# Altium schematic symbol library MCU_NXP_S08.SchLib: 189 symbols (part 2 of 4)
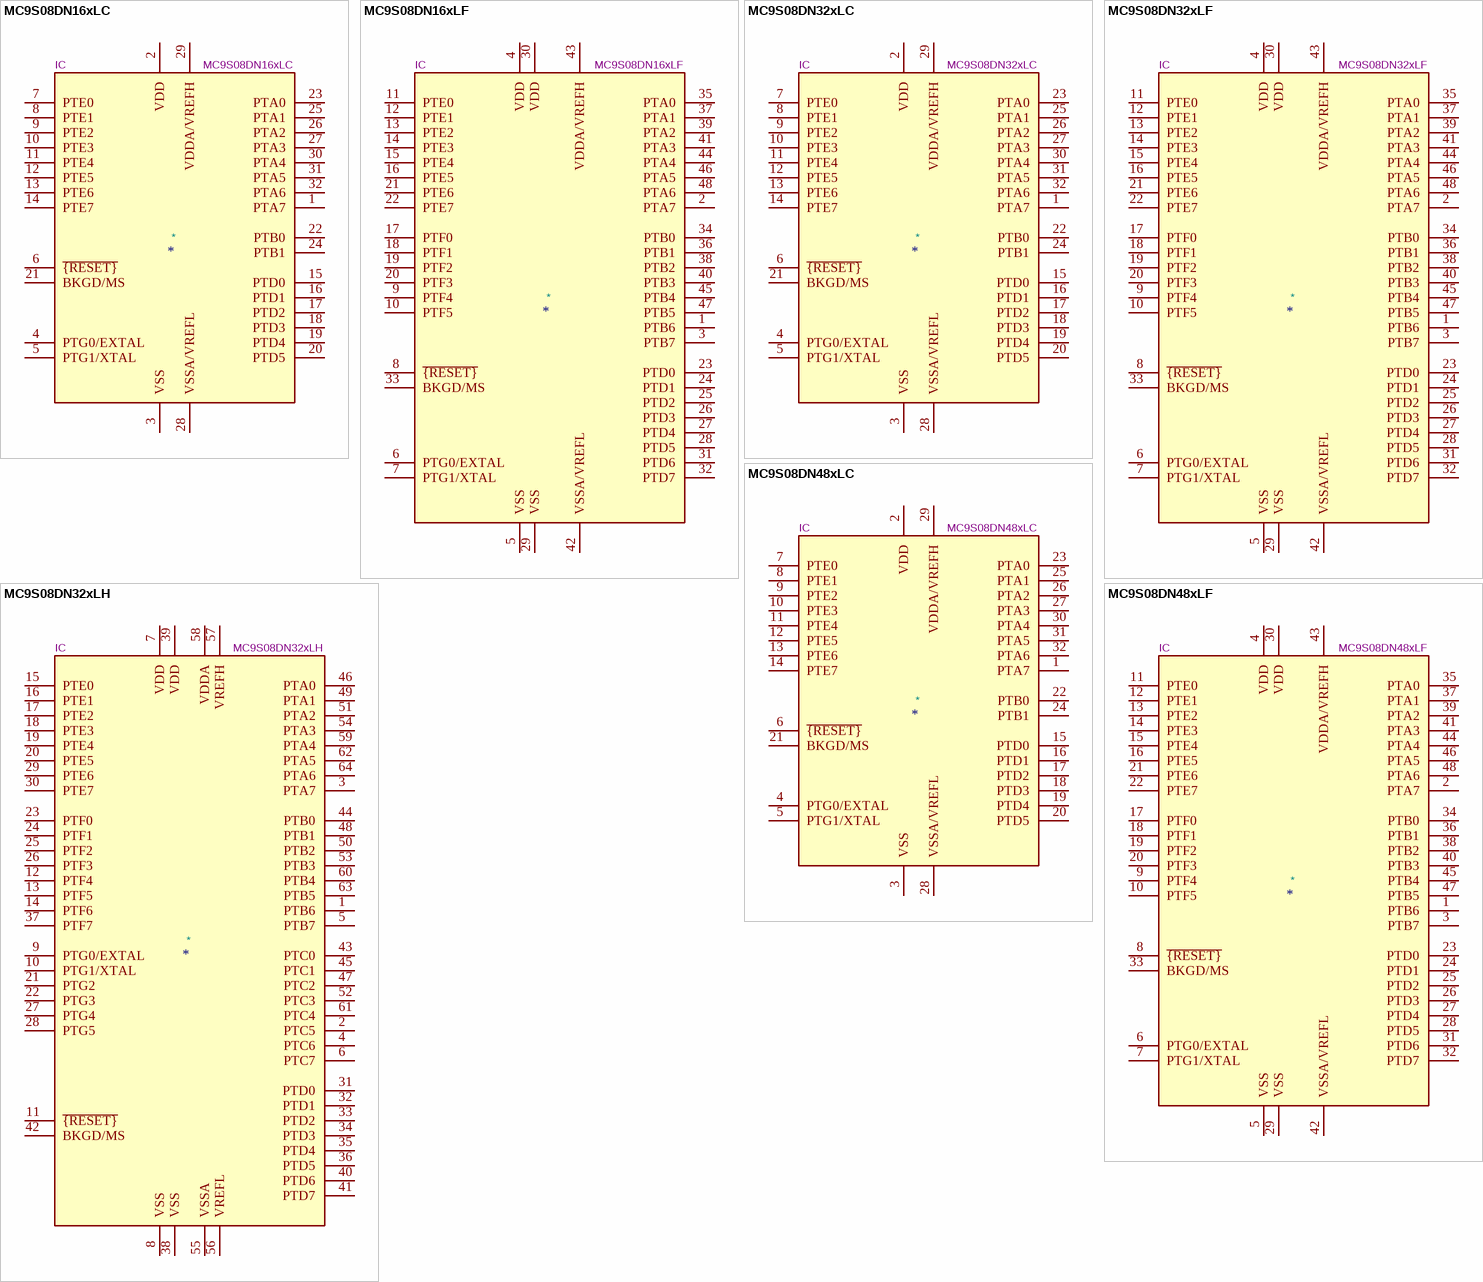
[diagram p20: symbols MC9S08DN16xLC to MC9S08DN48xLF]

## MC9S08DN48xLC
designator *  value MC9S08DN48xLC  Reference: IC
8-bit Cost-Effective Microcontroller, S08 core, 48kB Flash, 2kB RAM, 1.5kB EEPROM, LQFP-32; ki_keywords: NXP S08 Microcontroller; ki_fp_filters: LQFP*7x7mm*P0.8mm*; Footprint: Package_QFP:LQFP-32_7x7mm_P0.8mm; Datasheet: https://www.nxp.com/docs/en/data-sheet/MC9S08DZ60.pdf; Description_: 8-bit Cost-Effective Microcontroller, S08 core, 48kB Flash, 2kB RAM, 1.5kB EEPROM, LQFP-32
pins: 1 PTA7, 2 VDD, 3 VSS, 4 PTG0/EXTAL, 5 PTG1/XTAL, 6 ~{{RESET}}, 7 PTE0, 8 PTE1, 9 PTE2, 10 PTE3, 11 PTE4, 12 PTE5, 13 PTE6, 14 PTE7, 15 PTD0, 16 PTD1, 17 PTD2, 18 PTD3, 19 PTD4, 20 PTD5, 21 BKGD/MS, 22 PTB0, 23 PTA0, 24 PTB1, 25 PTA1, 26 PTA2, 27 PTA3, 28 VSSA/VREFL, 29 VDDA/VREFH, 30 PTA4, 31 PTA5, 32 PTA6

## MC9S08DN48xLF
designator *  value MC9S08DN48xLF  Reference: IC
8-bit Cost-Effective Microcontroller, S08 core, 48kB Flash, 2kB RAM, 1.5kB EEPROM, LQFP-48; ki_keywords: NXP S08 Microcontroller; ki_fp_filters: LQFP*7x7mm*P0.5mm*; Footprint: Package_QFP:LQFP-48_7x7mm_P0.5mm; Datasheet: https://www.nxp.com/docs/en/data-sheet/MC9S08DZ60.pdf; Description_: 8-bit Cost-Effective Microcontroller, S08 core, 48kB Flash, 2kB RAM, 1.5kB EEPROM, LQFP-48
pins: 1 PTB6, 2 PTA7, 3 PTB7, 4 VDD, 5 VSS, 6 PTG0/EXTAL, 7 PTG1/XTAL, 8 ~{{RESET}}, 9 PTF4, 10 PTF5, 11 PTE0, 12 PTE1, 13 PTE2, 14 PTE3, 15 PTE4, 16 PTE5, 17 PTF0, 18 PTF1, 19 PTF2, 20 PTF3, 21 PTE6, 22 PTE7, 23 PTD0, 24 PTD1, 25 PTD2, 26 PTD3, 27 PTD4, 28 PTD5, 29 VSS, 30 VDD, 31 PTD6, 32 PTD7, 33 BKGD/MS, 34 PTB0, 35 PTA0, 36 PTB1, 37 PTA1, 38 PTB2, 39 PTA2, 40 PTB3, 41 PTA3, 42 VSSA/VREFL, 43 VDDA/VREFH, 44 PTA4, 45 PTB4, 46 PTA5, 47 PTB5, 48 PTA6

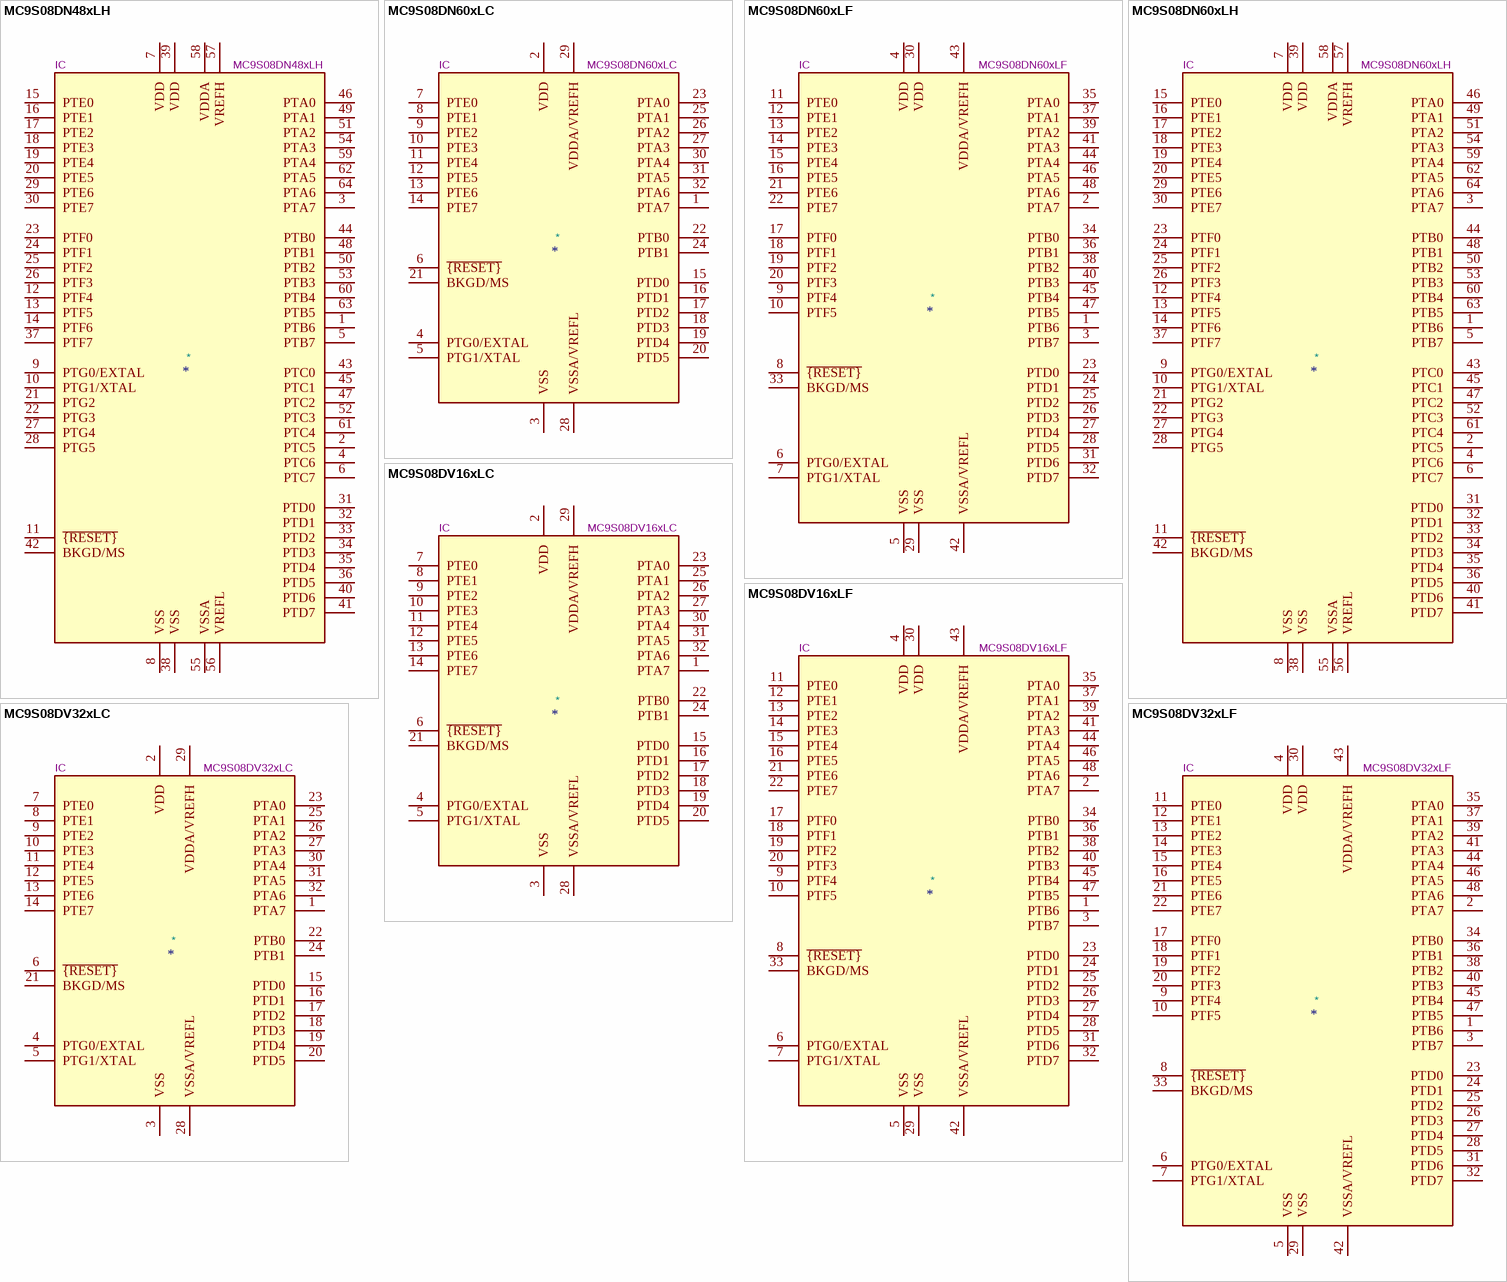
[diagram p7: symbols MC9S08DN48xLH to MC9S08DV32xLF]

## MC9S08DN48xLH
designator *  value MC9S08DN48xLH  Reference: IC
8-bit Cost-Effective Microcontroller, S08 core, 48kB Flash, 2kB RAM, 1.5kB EEPROM, LQFP-64; ki_keywords: NXP S08 Microcontroller; ki_fp_filters: LQFP*10x10mm*P0.5mm*; Footprint: Package_QFP:LQFP-64_10x10mm_P0.5mm; Datasheet: https://www.nxp.com/docs/en/data-sheet/MC9S08DN60.pdf; Description_: 8-bit Cost-Effective Microcontroller, S08 core, 48kB Flash, 2kB RAM, 1.5kB EEPROM, LQFP-64
pins: 1 PTB6, 2 PTC5, 3 PTA7, 4 PTC6, 5 PTB7, 6 PTC7, 7 VDD, 8 VSS, 9 PTG0/EXTAL, 10 PTG1/XTAL, 11 ~{{RESET}}, 12 PTF4, 13 PTF5, 14 PTF6, 15 PTE0, 16 PTE1, 17 PTE2, 18 PTE3, 19 PTE4, 20 PTE5, 21 PTG2, 22 PTG3, 23 PTF0, 24 PTF1, 25 PTF2, 26 PTF3, 27 PTG4, 28 PTG5, 29 PTE6, 30 PTE7, 31 PTD0, 32 PTD1, 33 PTD2, 34 PTD3, 35 PTD4, 36 PTD5, 37 PTF7, 38 VSS, 39 VDD, 40 PTD6, 41 PTD7, 42 BKGD/MS, 43 PTC0, 44 PTB0, 45 PTC1, 46 PTA0, 47 PTC2, 48 PTB1, 49 PTA1, 50 PTB2, 51 PTA2, 52 PTC3, 53 PTB3, 54 PTA3, 55 VSSA, 56 VREFL, 57 VREFH, 58 VDDA, 59 PTA4, 60 PTB4, 61 PTC4, 62 PTA5, 63 PTB5, 64 PTA6

## MC9S08DN60xLC
designator *  value MC9S08DN60xLC  Reference: IC
8-bit Cost-Effective Microcontroller, S08 core, 60kB Flash, 2kB RAM, 2kB EEPROM, LQFP-32; ki_keywords: NXP S08 Microcontroller; ki_fp_filters: LQFP*7x7mm*P0.8mm*; Footprint: Package_QFP:LQFP-32_7x7mm_P0.8mm; Datasheet: https://www.nxp.com/docs/en/data-sheet/MC9S08DZ60.pdf; Description_: 8-bit Cost-Effective Microcontroller, S08 core, 60kB Flash, 2kB RAM, 2kB EEPROM, LQFP-32
pins: 1 PTA7, 2 VDD, 3 VSS, 4 PTG0/EXTAL, 5 PTG1/XTAL, 6 ~{{RESET}}, 7 PTE0, 8 PTE1, 9 PTE2, 10 PTE3, 11 PTE4, 12 PTE5, 13 PTE6, 14 PTE7, 15 PTD0, 16 PTD1, 17 PTD2, 18 PTD3, 19 PTD4, 20 PTD5, 21 BKGD/MS, 22 PTB0, 23 PTA0, 24 PTB1, 25 PTA1, 26 PTA2, 27 PTA3, 28 VSSA/VREFL, 29 VDDA/VREFH, 30 PTA4, 31 PTA5, 32 PTA6

## MC9S08DN60xLF
designator *  value MC9S08DN60xLF  Reference: IC
8-bit Cost-Effective Microcontroller, S08 core, 60kB Flash, 2kB RAM, 2kB EEPROM, LQFP-48; ki_keywords: NXP S08 Microcontroller; ki_fp_filters: LQFP*7x7mm*P0.5mm*; Footprint: Package_QFP:LQFP-48_7x7mm_P0.5mm; Datasheet: https://www.nxp.com/docs/en/data-sheet/MC9S08DZ60.pdf; Description_: 8-bit Cost-Effective Microcontroller, S08 core, 60kB Flash, 2kB RAM, 2kB EEPROM, LQFP-48
pins: 1 PTB6, 2 PTA7, 3 PTB7, 4 VDD, 5 VSS, 6 PTG0/EXTAL, 7 PTG1/XTAL, 8 ~{{RESET}}, 9 PTF4, 10 PTF5, 11 PTE0, 12 PTE1, 13 PTE2, 14 PTE3, 15 PTE4, 16 PTE5, 17 PTF0, 18 PTF1, 19 PTF2, 20 PTF3, 21 PTE6, 22 PTE7, 23 PTD0, 24 PTD1, 25 PTD2, 26 PTD3, 27 PTD4, 28 PTD5, 29 VSS, 30 VDD, 31 PTD6, 32 PTD7, 33 BKGD/MS, 34 PTB0, 35 PTA0, 36 PTB1, 37 PTA1, 38 PTB2, 39 PTA2, 40 PTB3, 41 PTA3, 42 VSSA/VREFL, 43 VDDA/VREFH, 44 PTA4, 45 PTB4, 46 PTA5, 47 PTB5, 48 PTA6

## MC9S08DN60xLH
designator *  value MC9S08DN60xLH  Reference: IC
8-bit Cost-Effective Microcontroller, S08 core, 60kB Flash, 2kB RAM, 2kB EEPROM, LQFP-64; ki_keywords: NXP S08 Microcontroller; ki_fp_filters: LQFP*10x10mm*P0.5mm*; Footprint: Package_QFP:LQFP-64_10x10mm_P0.5mm; Datasheet: https://www.nxp.com/docs/en/data-sheet/MC9S08DN60.pdf; Description_: 8-bit Cost-Effective Microcontroller, S08 core, 60kB Flash, 2kB RAM, 2kB EEPROM, LQFP-64
pins: 1 PTB6, 2 PTC5, 3 PTA7, 4 PTC6, 5 PTB7, 6 PTC7, 7 VDD, 8 VSS, 9 PTG0/EXTAL, 10 PTG1/XTAL, 11 ~{{RESET}}, 12 PTF4, 13 PTF5, 14 PTF6, 15 PTE0, 16 PTE1, 17 PTE2, 18 PTE3, 19 PTE4, 20 PTE5, 21 PTG2, 22 PTG3, 23 PTF0, 24 PTF1, 25 PTF2, 26 PTF3, 27 PTG4, 28 PTG5, 29 PTE6, 30 PTE7, 31 PTD0, 32 PTD1, 33 PTD2, 34 PTD3, 35 PTD4, 36 PTD5, 37 PTF7, 38 VSS, 39 VDD, 40 PTD6, 41 PTD7, 42 BKGD/MS, 43 PTC0, 44 PTB0, 45 PTC1, 46 PTA0, 47 PTC2, 48 PTB1, 49 PTA1, 50 PTB2, 51 PTA2, 52 PTC3, 53 PTB3, 54 PTA3, 55 VSSA, 56 VREFL, 57 VREFH, 58 VDDA, 59 PTA4, 60 PTB4, 61 PTC4, 62 PTA5, 63 PTB5, 64 PTA6

## MC9S08DV16xLC
designator *  value MC9S08DV16xLC  Reference: IC
8-bit Cost-Effective Microcontroller, S08 core, 16kB Flash, 1kB RAM, 512B EEPROM, LQFP-32; ki_keywords: NXP S08 Microcontroller; ki_fp_filters: LQFP*7x7mm*P0.8mm*; Footprint: Package_QFP:LQFP-32_7x7mm_P0.8mm; Datasheet: https://www.nxp.com/docs/en/data-sheet/MC9S08DZ60.pdf; Description_: 8-bit Cost-Effective Microcontroller, S08 core, 16kB Flash, 1kB RAM, 512B EEPROM, LQFP-32
pins: 1 PTA7, 2 VDD, 3 VSS, 4 PTG0/EXTAL, 5 PTG1/XTAL, 6 ~{{RESET}}, 7 PTE0, 8 PTE1, 9 PTE2, 10 PTE3, 11 PTE4, 12 PTE5, 13 PTE6, 14 PTE7, 15 PTD0, 16 PTD1, 17 PTD2, 18 PTD3, 19 PTD4, 20 PTD5, 21 BKGD/MS, 22 PTB0, 23 PTA0, 24 PTB1, 25 PTA1, 26 PTA2, 27 PTA3, 28 VSSA/VREFL, 29 VDDA/VREFH, 30 PTA4, 31 PTA5, 32 PTA6

## MC9S08DV16xLF
designator *  value MC9S08DV16xLF  Reference: IC
8-bit Cost-Effective Microcontroller, S08 core, 16kB Flash, 1kB RAM, 512B EEPROM, LQFP-48; ki_keywords: NXP S08 Microcontroller; ki_fp_filters: LQFP*7x7mm*P0.5mm*; Footprint: Package_QFP:LQFP-48_7x7mm_P0.5mm; Datasheet: https://www.nxp.com/docs/en/data-sheet/MC9S08DZ60.pdf; Description_: 8-bit Cost-Effective Microcontroller, S08 core, 16kB Flash, 1kB RAM, 512B EEPROM, LQFP-48
pins: 1 PTB6, 2 PTA7, 3 PTB7, 4 VDD, 5 VSS, 6 PTG0/EXTAL, 7 PTG1/XTAL, 8 ~{{RESET}}, 9 PTF4, 10 PTF5, 11 PTE0, 12 PTE1, 13 PTE2, 14 PTE3, 15 PTE4, 16 PTE5, 17 PTF0, 18 PTF1, 19 PTF2, 20 PTF3, 21 PTE6, 22 PTE7, 23 PTD0, 24 PTD1, 25 PTD2, 26 PTD3, 27 PTD4, 28 PTD5, 29 VSS, 30 VDD, 31 PTD6, 32 PTD7, 33 BKGD/MS, 34 PTB0, 35 PTA0, 36 PTB1, 37 PTA1, 38 PTB2, 39 PTA2, 40 PTB3, 41 PTA3, 42 VSSA/VREFL, 43 VDDA/VREFH, 44 PTA4, 45 PTB4, 46 PTA5, 47 PTB5, 48 PTA6

## MC9S08DV32xLC
designator *  value MC9S08DV32xLC  Reference: IC
8-bit Cost-Effective Microcontroller, S08 core, 32kB Flash, 1kB RAM, LQFP-32; ki_keywords: NXP S08 Microcontroller; ki_fp_filters: LQFP*7x7mm*P0.8mm*; Footprint: Package_QFP:LQFP-32_7x7mm_P0.8mm; Datasheet: https://www.nxp.com/docs/en/data-sheet/MC9S08DZ60.pdf; Description_: 8-bit Cost-Effective Microcontroller, S08 core, 32kB Flash, 1kB RAM, LQFP-32
pins: 1 PTA7, 2 VDD, 3 VSS, 4 PTG0/EXTAL, 5 PTG1/XTAL, 6 ~{{RESET}}, 7 PTE0, 8 PTE1, 9 PTE2, 10 PTE3, 11 PTE4, 12 PTE5, 13 PTE6, 14 PTE7, 15 PTD0, 16 PTD1, 17 PTD2, 18 PTD3, 19 PTD4, 20 PTD5, 21 BKGD/MS, 22 PTB0, 23 PTA0, 24 PTB1, 25 PTA1, 26 PTA2, 27 PTA3, 28 VSSA/VREFL, 29 VDDA/VREFH, 30 PTA4, 31 PTA5, 32 PTA6

## MC9S08DV32xLF
designator *  value MC9S08DV32xLF  Reference: IC
8-bit Cost-Effective Microcontroller, S08 core, 32kB Flash, 1kB RAM, LQFP-48; ki_keywords: NXP S08 Microcontroller; ki_fp_filters: LQFP*7x7mm*P0.5mm*; Footprint: Package_QFP:LQFP-48_7x7mm_P0.5mm; Datasheet: https://www.nxp.com/docs/en/data-sheet/MC9S08DZ60.pdf; Description_: 8-bit Cost-Effective Microcontroller, S08 core, 32kB Flash, 1kB RAM, LQFP-48
pins: 1 PTB6, 2 PTA7, 3 PTB7, 4 VDD, 5 VSS, 6 PTG0/EXTAL, 7 PTG1/XTAL, 8 ~{{RESET}}, 9 PTF4, 10 PTF5, 11 PTE0, 12 PTE1, 13 PTE2, 14 PTE3, 15 PTE4, 16 PTE5, 17 PTF0, 18 PTF1, 19 PTF2, 20 PTF3, 21 PTE6, 22 PTE7, 23 PTD0, 24 PTD1, 25 PTD2, 26 PTD3, 27 PTD4, 28 PTD5, 29 VSS, 30 VDD, 31 PTD6, 32 PTD7, 33 BKGD/MS, 34 PTB0, 35 PTA0, 36 PTB1, 37 PTA1, 38 PTB2, 39 PTA2, 40 PTB3, 41 PTA3, 42 VSSA/VREFL, 43 VDDA/VREFH, 44 PTA4, 45 PTB4, 46 PTA5, 47 PTB5, 48 PTA6

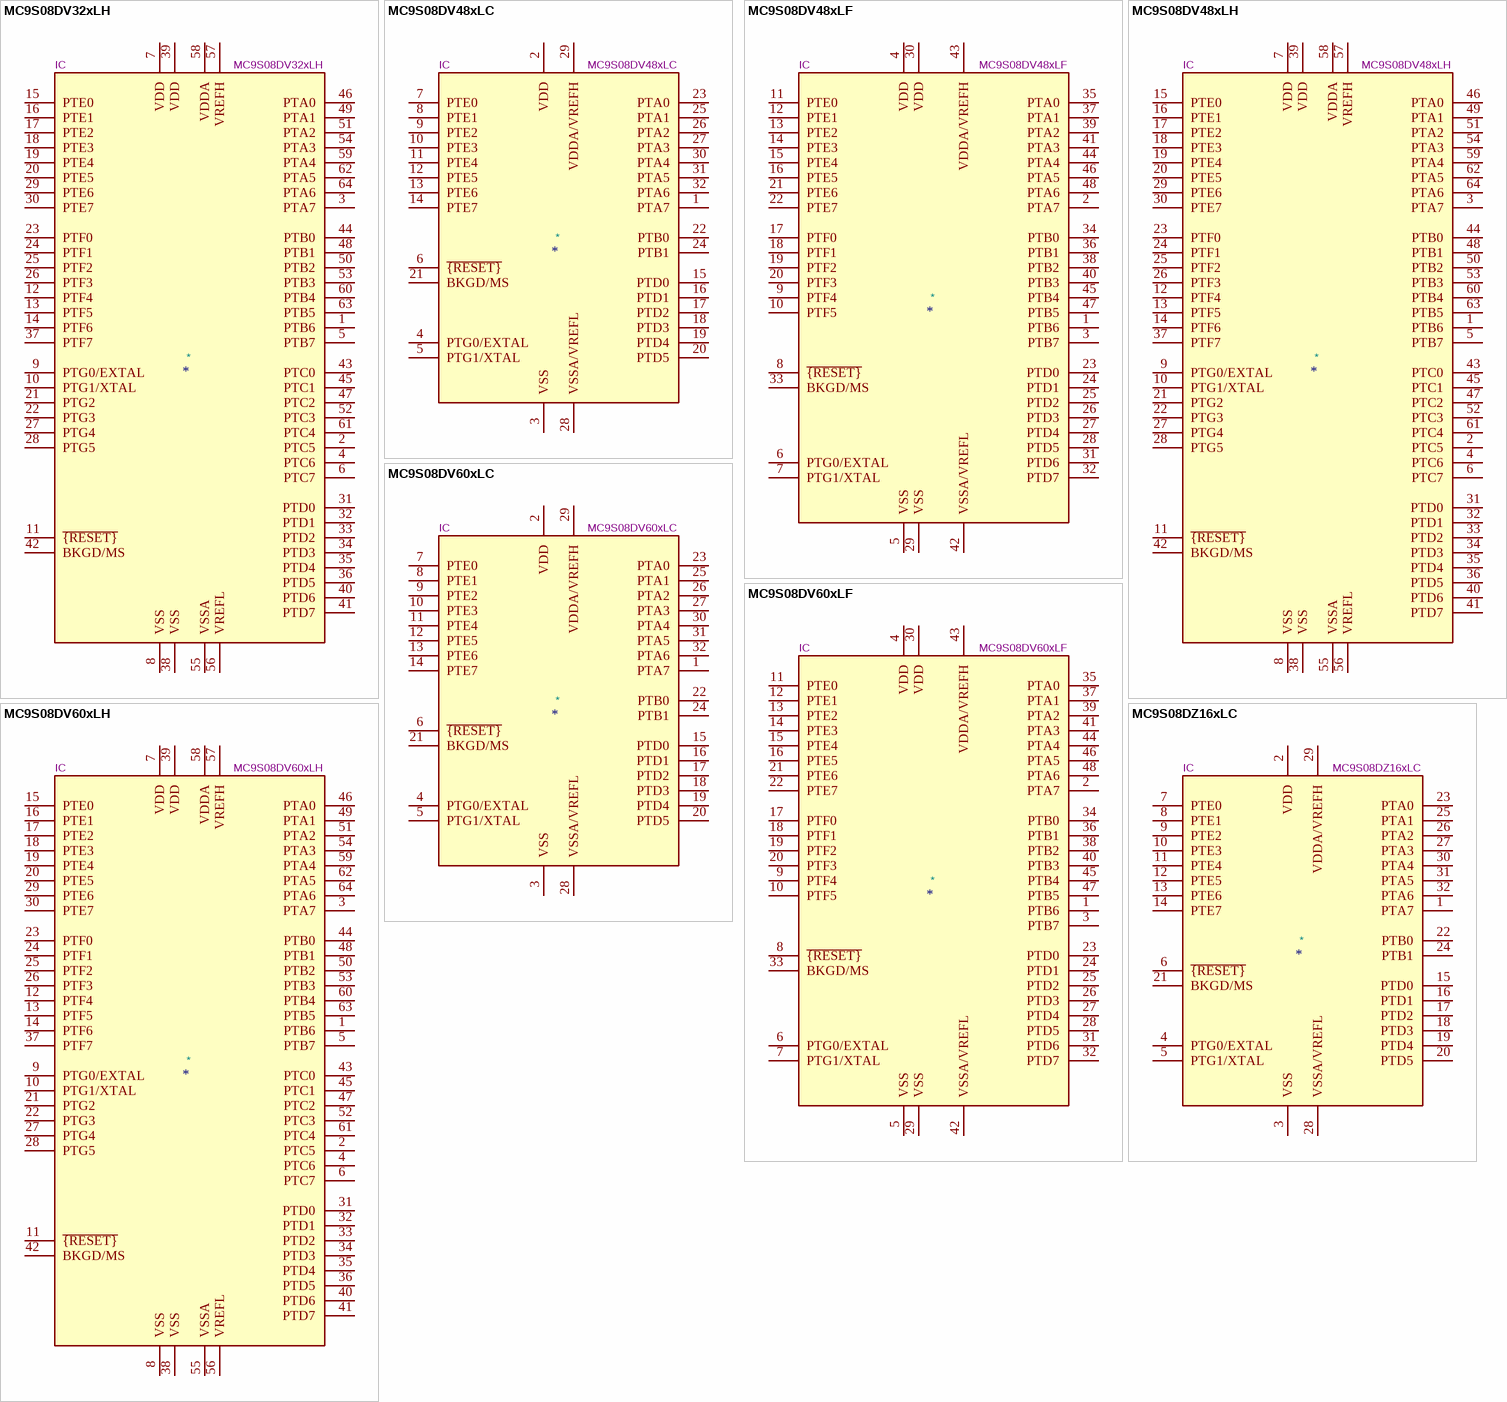
[diagram p8: symbols MC9S08DV32xLH to MC9S08DZ16xLC]

## MC9S08DV32xLH
designator *  value MC9S08DV32xLH  Reference: IC
8-bit Cost-Effective Microcontroller, S08 core, 32kB Flash, 1kB RAM, LQFP-64; ki_keywords: NXP S08 Microcontroller; ki_fp_filters: LQFP*10x10mm*P0.5mm*; Footprint: Package_QFP:LQFP-64_10x10mm_P0.5mm; Datasheet: https://www.nxp.com/docs/en/data-sheet/MC9S08DV60.pdf; Description_: 8-bit Cost-Effective Microcontroller, S08 core, 32kB Flash, 1kB RAM, LQFP-64
pins: 1 PTB6, 2 PTC5, 3 PTA7, 4 PTC6, 5 PTB7, 6 PTC7, 7 VDD, 8 VSS, 9 PTG0/EXTAL, 10 PTG1/XTAL, 11 ~{{RESET}}, 12 PTF4, 13 PTF5, 14 PTF6, 15 PTE0, 16 PTE1, 17 PTE2, 18 PTE3, 19 PTE4, 20 PTE5, 21 PTG2, 22 PTG3, 23 PTF0, 24 PTF1, 25 PTF2, 26 PTF3, 27 PTG4, 28 PTG5, 29 PTE6, 30 PTE7, 31 PTD0, 32 PTD1, 33 PTD2, 34 PTD3, 35 PTD4, 36 PTD5, 37 PTF7, 38 VSS, 39 VDD, 40 PTD6, 41 PTD7, 42 BKGD/MS, 43 PTC0, 44 PTB0, 45 PTC1, 46 PTA0, 47 PTC2, 48 PTB1, 49 PTA1, 50 PTB2, 51 PTA2, 52 PTC3, 53 PTB3, 54 PTA3, 55 VSSA, 56 VREFL, 57 VREFH, 58 VDDA, 59 PTA4, 60 PTB4, 61 PTC4, 62 PTA5, 63 PTB5, 64 PTA6

## MC9S08DV48xLC
designator *  value MC9S08DV48xLC  Reference: IC
8-bit Cost-Effective Microcontroller, S08 core, 48kB Flash, 3kB RAM, LQFP-32; ki_keywords: NXP S08 Microcontroller; ki_fp_filters: LQFP*7x7mm*P0.8mm*; Footprint: Package_QFP:LQFP-32_7x7mm_P0.8mm; Datasheet: https://www.nxp.com/docs/en/data-sheet/MC9S08DZ60.pdf; Description_: 8-bit Cost-Effective Microcontroller, S08 core, 48kB Flash, 3kB RAM, LQFP-32
pins: 1 PTA7, 2 VDD, 3 VSS, 4 PTG0/EXTAL, 5 PTG1/XTAL, 6 ~{{RESET}}, 7 PTE0, 8 PTE1, 9 PTE2, 10 PTE3, 11 PTE4, 12 PTE5, 13 PTE6, 14 PTE7, 15 PTD0, 16 PTD1, 17 PTD2, 18 PTD3, 19 PTD4, 20 PTD5, 21 BKGD/MS, 22 PTB0, 23 PTA0, 24 PTB1, 25 PTA1, 26 PTA2, 27 PTA3, 28 VSSA/VREFL, 29 VDDA/VREFH, 30 PTA4, 31 PTA5, 32 PTA6

## MC9S08DV48xLF
designator *  value MC9S08DV48xLF  Reference: IC
8-bit Cost-Effective Microcontroller, S08 core, 48kB Flash, 3kB RAM, LQFP-48; ki_keywords: NXP S08 Microcontroller; ki_fp_filters: LQFP*7x7mm*P0.5mm*; Footprint: Package_QFP:LQFP-48_7x7mm_P0.5mm; Datasheet: https://www.nxp.com/docs/en/data-sheet/MC9S08DZ60.pdf; Description_: 8-bit Cost-Effective Microcontroller, S08 core, 48kB Flash, 3kB RAM, LQFP-48
pins: 1 PTB6, 2 PTA7, 3 PTB7, 4 VDD, 5 VSS, 6 PTG0/EXTAL, 7 PTG1/XTAL, 8 ~{{RESET}}, 9 PTF4, 10 PTF5, 11 PTE0, 12 PTE1, 13 PTE2, 14 PTE3, 15 PTE4, 16 PTE5, 17 PTF0, 18 PTF1, 19 PTF2, 20 PTF3, 21 PTE6, 22 PTE7, 23 PTD0, 24 PTD1, 25 PTD2, 26 PTD3, 27 PTD4, 28 PTD5, 29 VSS, 30 VDD, 31 PTD6, 32 PTD7, 33 BKGD/MS, 34 PTB0, 35 PTA0, 36 PTB1, 37 PTA1, 38 PTB2, 39 PTA2, 40 PTB3, 41 PTA3, 42 VSSA/VREFL, 43 VDDA/VREFH, 44 PTA4, 45 PTB4, 46 PTA5, 47 PTB5, 48 PTA6

## MC9S08DV48xLH
designator *  value MC9S08DV48xLH  Reference: IC
8-bit Cost-Effective Microcontroller, S08 core, 48kB Flash, 3kB RAM, LQFP-64; ki_keywords: NXP S08 Microcontroller; ki_fp_filters: LQFP*10x10mm*P0.5mm*; Footprint: Package_QFP:LQFP-64_10x10mm_P0.5mm; Datasheet: https://www.nxp.com/docs/en/data-sheet/MC9S08DV60.pdf; Description_: 8-bit Cost-Effective Microcontroller, S08 core, 48kB Flash, 3kB RAM, LQFP-64
pins: 1 PTB6, 2 PTC5, 3 PTA7, 4 PTC6, 5 PTB7, 6 PTC7, 7 VDD, 8 VSS, 9 PTG0/EXTAL, 10 PTG1/XTAL, 11 ~{{RESET}}, 12 PTF4, 13 PTF5, 14 PTF6, 15 PTE0, 16 PTE1, 17 PTE2, 18 PTE3, 19 PTE4, 20 PTE5, 21 PTG2, 22 PTG3, 23 PTF0, 24 PTF1, 25 PTF2, 26 PTF3, 27 PTG4, 28 PTG5, 29 PTE6, 30 PTE7, 31 PTD0, 32 PTD1, 33 PTD2, 34 PTD3, 35 PTD4, 36 PTD5, 37 PTF7, 38 VSS, 39 VDD, 40 PTD6, 41 PTD7, 42 BKGD/MS, 43 PTC0, 44 PTB0, 45 PTC1, 46 PTA0, 47 PTC2, 48 PTB1, 49 PTA1, 50 PTB2, 51 PTA2, 52 PTC3, 53 PTB3, 54 PTA3, 55 VSSA, 56 VREFL, 57 VREFH, 58 VDDA, 59 PTA4, 60 PTB4, 61 PTC4, 62 PTA5, 63 PTB5, 64 PTA6

## MC9S08DV60xLC
designator *  value MC9S08DV60xLC  Reference: IC
8-bit Cost-Effective Microcontroller, S08 core, 60kB Flash, 3kB RAM, LQFP-32; ki_keywords: NXP S08 Microcontroller; ki_fp_filters: LQFP*7x7mm*P0.8mm*; Footprint: Package_QFP:LQFP-32_7x7mm_P0.8mm; Datasheet: https://www.nxp.com/docs/en/data-sheet/MC9S08DZ60.pdf; Description_: 8-bit Cost-Effective Microcontroller, S08 core, 60kB Flash, 3kB RAM, LQFP-32
pins: 1 PTA7, 2 VDD, 3 VSS, 4 PTG0/EXTAL, 5 PTG1/XTAL, 6 ~{{RESET}}, 7 PTE0, 8 PTE1, 9 PTE2, 10 PTE3, 11 PTE4, 12 PTE5, 13 PTE6, 14 PTE7, 15 PTD0, 16 PTD1, 17 PTD2, 18 PTD3, 19 PTD4, 20 PTD5, 21 BKGD/MS, 22 PTB0, 23 PTA0, 24 PTB1, 25 PTA1, 26 PTA2, 27 PTA3, 28 VSSA/VREFL, 29 VDDA/VREFH, 30 PTA4, 31 PTA5, 32 PTA6

## MC9S08DV60xLF
designator *  value MC9S08DV60xLF  Reference: IC
8-bit Cost-Effective Microcontroller, S08 core, 60kB Flash, 3kB RAM, LQFP-48; ki_keywords: NXP S08 Microcontroller; ki_fp_filters: LQFP*7x7mm*P0.5mm*; Footprint: Package_QFP:LQFP-48_7x7mm_P0.5mm; Datasheet: https://www.nxp.com/docs/en/data-sheet/MC9S08DZ60.pdf; Description_: 8-bit Cost-Effective Microcontroller, S08 core, 60kB Flash, 3kB RAM, LQFP-48
pins: 1 PTB6, 2 PTA7, 3 PTB7, 4 VDD, 5 VSS, 6 PTG0/EXTAL, 7 PTG1/XTAL, 8 ~{{RESET}}, 9 PTF4, 10 PTF5, 11 PTE0, 12 PTE1, 13 PTE2, 14 PTE3, 15 PTE4, 16 PTE5, 17 PTF0, 18 PTF1, 19 PTF2, 20 PTF3, 21 PTE6, 22 PTE7, 23 PTD0, 24 PTD1, 25 PTD2, 26 PTD3, 27 PTD4, 28 PTD5, 29 VSS, 30 VDD, 31 PTD6, 32 PTD7, 33 BKGD/MS, 34 PTB0, 35 PTA0, 36 PTB1, 37 PTA1, 38 PTB2, 39 PTA2, 40 PTB3, 41 PTA3, 42 VSSA/VREFL, 43 VDDA/VREFH, 44 PTA4, 45 PTB4, 46 PTA5, 47 PTB5, 48 PTA6

## MC9S08DV60xLH
designator *  value MC9S08DV60xLH  Reference: IC
8-bit Cost-Effective Microcontroller, S08 core, 60kB Flash, 3kB RAM, LQFP-64; ki_keywords: NXP S08 Microcontroller; ki_fp_filters: LQFP*10x10mm*P0.5mm*; Footprint: Package_QFP:LQFP-64_10x10mm_P0.5mm; Datasheet: https://www.nxp.com/docs/en/data-sheet/MC9S08DV60.pdf; Description_: 8-bit Cost-Effective Microcontroller, S08 core, 60kB Flash, 3kB RAM, LQFP-64
pins: 1 PTB6, 2 PTC5, 3 PTA7, 4 PTC6, 5 PTB7, 6 PTC7, 7 VDD, 8 VSS, 9 PTG0/EXTAL, 10 PTG1/XTAL, 11 ~{{RESET}}, 12 PTF4, 13 PTF5, 14 PTF6, 15 PTE0, 16 PTE1, 17 PTE2, 18 PTE3, 19 PTE4, 20 PTE5, 21 PTG2, 22 PTG3, 23 PTF0, 24 PTF1, 25 PTF2, 26 PTF3, 27 PTG4, 28 PTG5, 29 PTE6, 30 PTE7, 31 PTD0, 32 PTD1, 33 PTD2, 34 PTD3, 35 PTD4, 36 PTD5, 37 PTF7, 38 VSS, 39 VDD, 40 PTD6, 41 PTD7, 42 BKGD/MS, 43 PTC0, 44 PTB0, 45 PTC1, 46 PTA0, 47 PTC2, 48 PTB1, 49 PTA1, 50 PTB2, 51 PTA2, 52 PTC3, 53 PTB3, 54 PTA3, 55 VSSA, 56 VREFL, 57 VREFH, 58 VDDA, 59 PTA4, 60 PTB4, 61 PTC4, 62 PTA5, 63 PTB5, 64 PTA6

## MC9S08DZ16xLC
designator *  value MC9S08DZ16xLC  Reference: IC
8-bit Cost-Effective Microcontroller, S08 core, 16kB Flash, 1kB RAM, 512B EEPROM, LQFP-32; ki_keywords: NXP S08 Microcontroller; ki_fp_filters: LQFP*7x7mm*P0.8mm*; Footprint: Package_QFP:LQFP-32_7x7mm_P0.8mm; Datasheet: https://www.nxp.com/docs/en/data-sheet/MC9S08DZ60.pdf; Description_: 8-bit Cost-Effective Microcontroller, S08 core, 16kB Flash, 1kB RAM, 512B EEPROM, LQFP-32
pins: 1 PTA7, 2 VDD, 3 VSS, 4 PTG0/EXTAL, 5 PTG1/XTAL, 6 ~{{RESET}}, 7 PTE0, 8 PTE1, 9 PTE2, 10 PTE3, 11 PTE4, 12 PTE5, 13 PTE6, 14 PTE7, 15 PTD0, 16 PTD1, 17 PTD2, 18 PTD3, 19 PTD4, 20 PTD5, 21 BKGD/MS, 22 PTB0, 23 PTA0, 24 PTB1, 25 PTA1, 26 PTA2, 27 PTA3, 28 VSSA/VREFL, 29 VDDA/VREFH, 30 PTA4, 31 PTA5, 32 PTA6

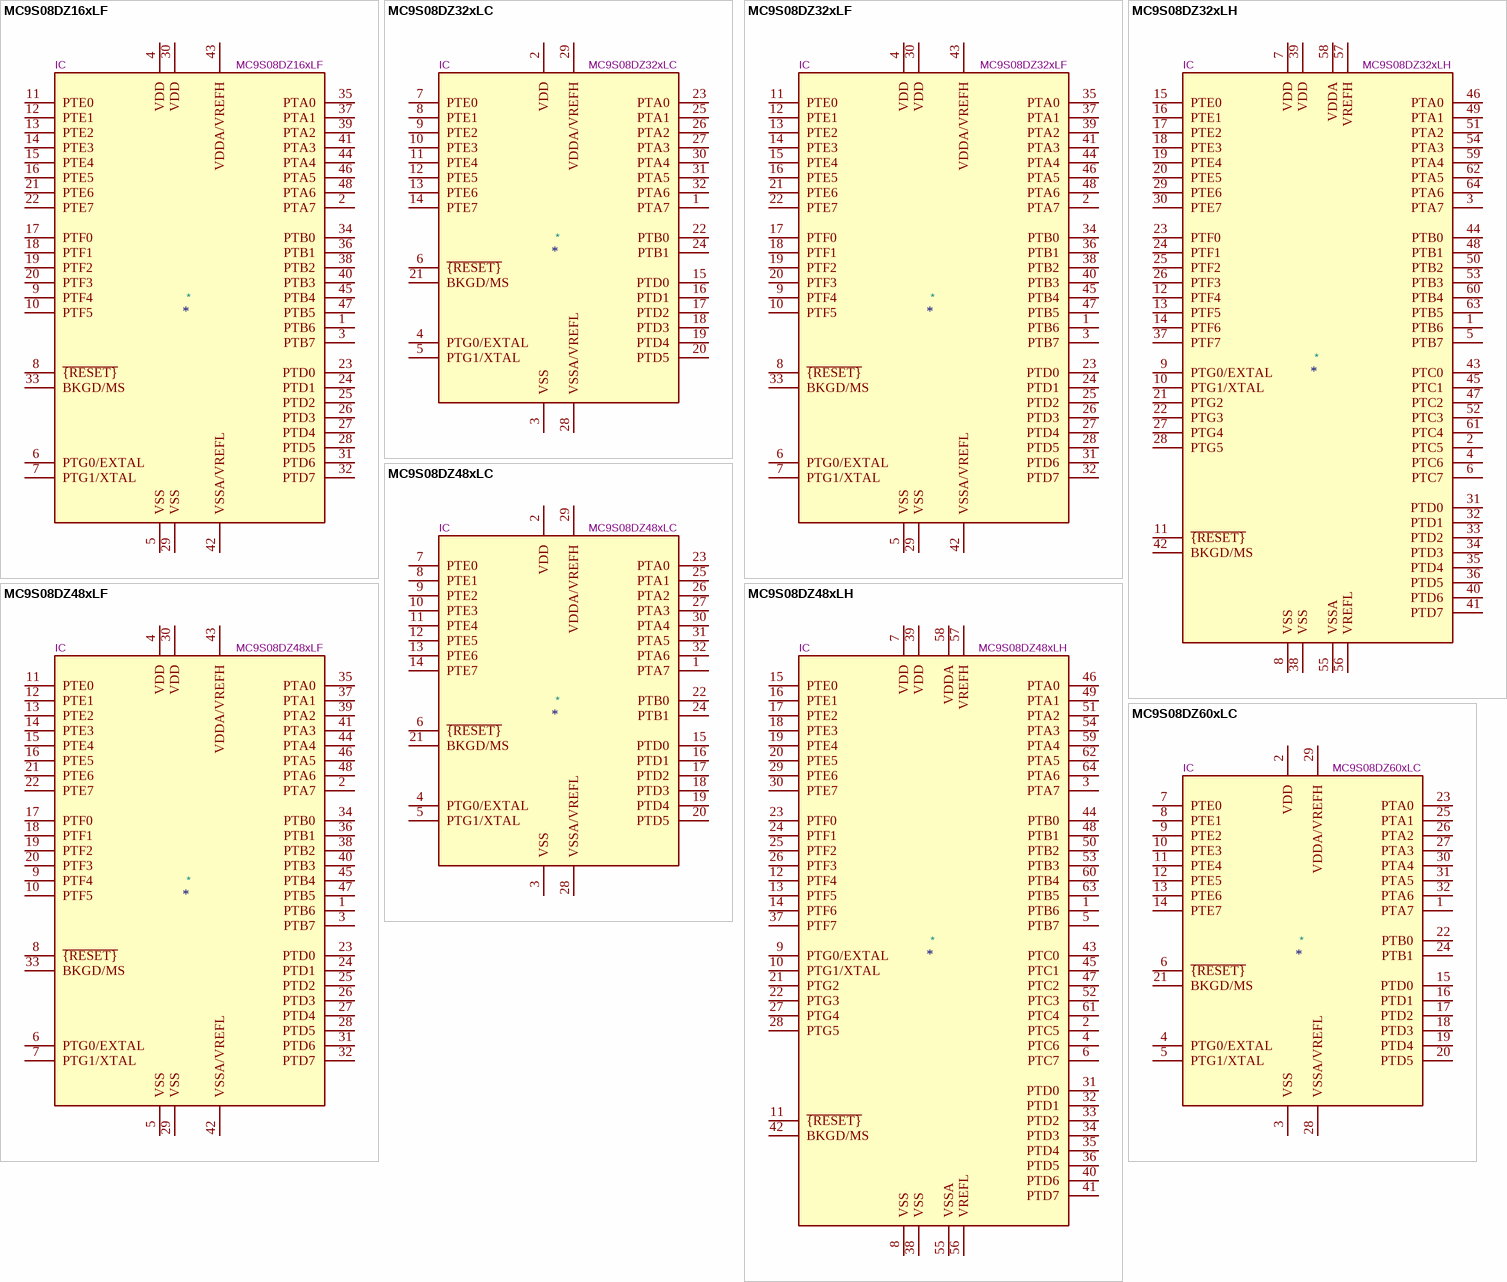
[diagram p9: symbols MC9S08DZ16xLF to MC9S08DZ60xLC]

## MC9S08DZ16xLF
designator *  value MC9S08DZ16xLF  Reference: IC
8-bit Cost-Effective Microcontroller, S08 core, 16kB Flash, 1kB RAM, 512B EEPROM, LQFP-48; ki_keywords: NXP S08 Microcontroller; ki_fp_filters: LQFP*7x7mm*P0.5mm*; Footprint: Package_QFP:LQFP-48_7x7mm_P0.5mm; Datasheet: https://www.nxp.com/docs/en/data-sheet/MC9S08DZ60.pdf; Description_: 8-bit Cost-Effective Microcontroller, S08 core, 16kB Flash, 1kB RAM, 512B EEPROM, LQFP-48
pins: 1 PTB6, 2 PTA7, 3 PTB7, 4 VDD, 5 VSS, 6 PTG0/EXTAL, 7 PTG1/XTAL, 8 ~{{RESET}}, 9 PTF4, 10 PTF5, 11 PTE0, 12 PTE1, 13 PTE2, 14 PTE3, 15 PTE4, 16 PTE5, 17 PTF0, 18 PTF1, 19 PTF2, 20 PTF3, 21 PTE6, 22 PTE7, 23 PTD0, 24 PTD1, 25 PTD2, 26 PTD3, 27 PTD4, 28 PTD5, 29 VSS, 30 VDD, 31 PTD6, 32 PTD7, 33 BKGD/MS, 34 PTB0, 35 PTA0, 36 PTB1, 37 PTA1, 38 PTB2, 39 PTA2, 40 PTB3, 41 PTA3, 42 VSSA/VREFL, 43 VDDA/VREFH, 44 PTA4, 45 PTB4, 46 PTA5, 47 PTB5, 48 PTA6

## MC9S08DZ32xLC
designator *  value MC9S08DZ32xLC  Reference: IC
8-bit Cost-Effective Microcontroller, S08 core, 32kB Flash, 2kB RAM, 1kB EEPROM, LQFP-32; ki_keywords: NXP S08 Microcontroller; ki_fp_filters: LQFP*7x7mm*P0.8mm*; Footprint: Package_QFP:LQFP-32_7x7mm_P0.8mm; Datasheet: https://www.nxp.com/docs/en/data-sheet/MC9S08DZ60.pdf; Description_: 8-bit Cost-Effective Microcontroller, S08 core, 32kB Flash, 2kB RAM, 1kB EEPROM, LQFP-32
pins: 1 PTA7, 2 VDD, 3 VSS, 4 PTG0/EXTAL, 5 PTG1/XTAL, 6 ~{{RESET}}, 7 PTE0, 8 PTE1, 9 PTE2, 10 PTE3, 11 PTE4, 12 PTE5, 13 PTE6, 14 PTE7, 15 PTD0, 16 PTD1, 17 PTD2, 18 PTD3, 19 PTD4, 20 PTD5, 21 BKGD/MS, 22 PTB0, 23 PTA0, 24 PTB1, 25 PTA1, 26 PTA2, 27 PTA3, 28 VSSA/VREFL, 29 VDDA/VREFH, 30 PTA4, 31 PTA5, 32 PTA6

## MC9S08DZ32xLF
designator *  value MC9S08DZ32xLF  Reference: IC
8-bit Cost-Effective Microcontroller, S08 core, 32kB Flash, 2kB RAM, 1kB EEPROM, LQFP-48; ki_keywords: NXP S08 Microcontroller; ki_fp_filters: LQFP*7x7mm*P0.5mm*; Footprint: Package_QFP:LQFP-48_7x7mm_P0.5mm; Datasheet: https://www.nxp.com/docs/en/data-sheet/MC9S08DZ60.pdf; Description_: 8-bit Cost-Effective Microcontroller, S08 core, 32kB Flash, 2kB RAM, 1kB EEPROM, LQFP-48
pins: 1 PTB6, 2 PTA7, 3 PTB7, 4 VDD, 5 VSS, 6 PTG0/EXTAL, 7 PTG1/XTAL, 8 ~{{RESET}}, 9 PTF4, 10 PTF5, 11 PTE0, 12 PTE1, 13 PTE2, 14 PTE3, 15 PTE4, 16 PTE5, 17 PTF0, 18 PTF1, 19 PTF2, 20 PTF3, 21 PTE6, 22 PTE7, 23 PTD0, 24 PTD1, 25 PTD2, 26 PTD3, 27 PTD4, 28 PTD5, 29 VSS, 30 VDD, 31 PTD6, 32 PTD7, 33 BKGD/MS, 34 PTB0, 35 PTA0, 36 PTB1, 37 PTA1, 38 PTB2, 39 PTA2, 40 PTB3, 41 PTA3, 42 VSSA/VREFL, 43 VDDA/VREFH, 44 PTA4, 45 PTB4, 46 PTA5, 47 PTB5, 48 PTA6

## MC9S08DZ32xLH
designator *  value MC9S08DZ32xLH  Reference: IC
8-bit Cost-Effective Microcontroller, S08 core, 32kB Flash, 2kB RAM, 1kB EEPROM, LQFP-64; ki_keywords: NXP S08 Microcontroller; ki_fp_filters: LQFP*10x10mm*P0.5mm*; Footprint: Package_QFP:LQFP-64_10x10mm_P0.5mm; Datasheet: https://www.nxp.com/docs/en/data-sheet/MC9S08DZ60.pdf; Description_: 8-bit Cost-Effective Microcontroller, S08 core, 32kB Flash, 2kB RAM, 1kB EEPROM, LQFP-64
pins: 1 PTB6, 2 PTC5, 3 PTA7, 4 PTC6, 5 PTB7, 6 PTC7, 7 VDD, 8 VSS, 9 PTG0/EXTAL, 10 PTG1/XTAL, 11 ~{{RESET}}, 12 PTF4, 13 PTF5, 14 PTF6, 15 PTE0, 16 PTE1, 17 PTE2, 18 PTE3, 19 PTE4, 20 PTE5, 21 PTG2, 22 PTG3, 23 PTF0, 24 PTF1, 25 PTF2, 26 PTF3, 27 PTG4, 28 PTG5, 29 PTE6, 30 PTE7, 31 PTD0, 32 PTD1, 33 PTD2, 34 PTD3, 35 PTD4, 36 PTD5, 37 PTF7, 38 VSS, 39 VDD, 40 PTD6, 41 PTD7, 42 BKGD/MS, 43 PTC0, 44 PTB0, 45 PTC1, 46 PTA0, 47 PTC2, 48 PTB1, 49 PTA1, 50 PTB2, 51 PTA2, 52 PTC3, 53 PTB3, 54 PTA3, 55 VSSA, 56 VREFL, 57 VREFH, 58 VDDA, 59 PTA4, 60 PTB4, 61 PTC4, 62 PTA5, 63 PTB5, 64 PTA6

## MC9S08DZ48xLC
designator *  value MC9S08DZ48xLC  Reference: IC
8-bit Cost-Effective Microcontroller, S08 core, 48kB Flash, 3kB RAM, 1.5kB EEPROM, LQFP-32; ki_keywords: NXP S08 Microcontroller; ki_fp_filters: LQFP*7x7mm*P0.8mm*; Footprint: Package_QFP:LQFP-32_7x7mm_P0.8mm; Datasheet: https://www.nxp.com/docs/en/data-sheet/MC9S08DZ60.pdf; Description_: 8-bit Cost-Effective Microcontroller, S08 core, 48kB Flash, 3kB RAM, 1.5kB EEPROM, LQFP-32
pins: 1 PTA7, 2 VDD, 3 VSS, 4 PTG0/EXTAL, 5 PTG1/XTAL, 6 ~{{RESET}}, 7 PTE0, 8 PTE1, 9 PTE2, 10 PTE3, 11 PTE4, 12 PTE5, 13 PTE6, 14 PTE7, 15 PTD0, 16 PTD1, 17 PTD2, 18 PTD3, 19 PTD4, 20 PTD5, 21 BKGD/MS, 22 PTB0, 23 PTA0, 24 PTB1, 25 PTA1, 26 PTA2, 27 PTA3, 28 VSSA/VREFL, 29 VDDA/VREFH, 30 PTA4, 31 PTA5, 32 PTA6

## MC9S08DZ48xLF
designator *  value MC9S08DZ48xLF  Reference: IC
8-bit Cost-Effective Microcontroller, S08 core, 48kB Flash, 3kB RAM, 1.5kB EEPROM, LQFP-48; ki_keywords: NXP S08 Microcontroller; ki_fp_filters: LQFP*7x7mm*P0.5mm*; Footprint: Package_QFP:LQFP-48_7x7mm_P0.5mm; Datasheet: https://www.nxp.com/docs/en/data-sheet/MC9S08DZ60.pdf; Description_: 8-bit Cost-Effective Microcontroller, S08 core, 48kB Flash, 3kB RAM, 1.5kB EEPROM, LQFP-48
pins: 1 PTB6, 2 PTA7, 3 PTB7, 4 VDD, 5 VSS, 6 PTG0/EXTAL, 7 PTG1/XTAL, 8 ~{{RESET}}, 9 PTF4, 10 PTF5, 11 PTE0, 12 PTE1, 13 PTE2, 14 PTE3, 15 PTE4, 16 PTE5, 17 PTF0, 18 PTF1, 19 PTF2, 20 PTF3, 21 PTE6, 22 PTE7, 23 PTD0, 24 PTD1, 25 PTD2, 26 PTD3, 27 PTD4, 28 PTD5, 29 VSS, 30 VDD, 31 PTD6, 32 PTD7, 33 BKGD/MS, 34 PTB0, 35 PTA0, 36 PTB1, 37 PTA1, 38 PTB2, 39 PTA2, 40 PTB3, 41 PTA3, 42 VSSA/VREFL, 43 VDDA/VREFH, 44 PTA4, 45 PTB4, 46 PTA5, 47 PTB5, 48 PTA6

## MC9S08DZ48xLH
designator *  value MC9S08DZ48xLH  Reference: IC
8-bit Cost-Effective Microcontroller, S08 core, 48kB Flash, 3kB RAM, 1.5kB EEPROM, LQFP-64; ki_keywords: NXP S08 Microcontroller; ki_fp_filters: LQFP*10x10mm*P0.5mm*; Footprint: Package_QFP:LQFP-64_10x10mm_P0.5mm; Datasheet: https://www.nxp.com/docs/en/data-sheet/MC9S08DZ60.pdf; Description_: 8-bit Cost-Effective Microcontroller, S08 core, 48kB Flash, 3kB RAM, 1.5kB EEPROM, LQFP-64
pins: 1 PTB6, 2 PTC5, 3 PTA7, 4 PTC6, 5 PTB7, 6 PTC7, 7 VDD, 8 VSS, 9 PTG0/EXTAL, 10 PTG1/XTAL, 11 ~{{RESET}}, 12 PTF4, 13 PTF5, 14 PTF6, 15 PTE0, 16 PTE1, 17 PTE2, 18 PTE3, 19 PTE4, 20 PTE5, 21 PTG2, 22 PTG3, 23 PTF0, 24 PTF1, 25 PTF2, 26 PTF3, 27 PTG4, 28 PTG5, 29 PTE6, 30 PTE7, 31 PTD0, 32 PTD1, 33 PTD2, 34 PTD3, 35 PTD4, 36 PTD5, 37 PTF7, 38 VSS, 39 VDD, 40 PTD6, 41 PTD7, 42 BKGD/MS, 43 PTC0, 44 PTB0, 45 PTC1, 46 PTA0, 47 PTC2, 48 PTB1, 49 PTA1, 50 PTB2, 51 PTA2, 52 PTC3, 53 PTB3, 54 PTA3, 55 VSSA, 56 VREFL, 57 VREFH, 58 VDDA, 59 PTA4, 60 PTB4, 61 PTC4, 62 PTA5, 63 PTB5, 64 PTA6

## MC9S08DZ60xLC
designator *  value MC9S08DZ60xLC  Reference: IC
8-bit Cost-Effective Microcontroller, S08 core, 60kB Flash, 4kB RAM, 2kB EEPROM, LQFP-32; ki_keywords: NXP S08 Microcontroller; ki_fp_filters: LQFP*7x7mm*P0.8mm*; Footprint: Package_QFP:LQFP-32_7x7mm_P0.8mm; Datasheet: https://www.nxp.com/docs/en/data-sheet/MC9S08DZ60.pdf; Description_: 8-bit Cost-Effective Microcontroller, S08 core, 60kB Flash, 4kB RAM, 2kB EEPROM, LQFP-32
pins: 1 PTA7, 2 VDD, 3 VSS, 4 PTG0/EXTAL, 5 PTG1/XTAL, 6 ~{{RESET}}, 7 PTE0, 8 PTE1, 9 PTE2, 10 PTE3, 11 PTE4, 12 PTE5, 13 PTE6, 14 PTE7, 15 PTD0, 16 PTD1, 17 PTD2, 18 PTD3, 19 PTD4, 20 PTD5, 21 BKGD/MS, 22 PTB0, 23 PTA0, 24 PTB1, 25 PTA1, 26 PTA2, 27 PTA3, 28 VSSA/VREFL, 29 VDDA/VREFH, 30 PTA4, 31 PTA5, 32 PTA6

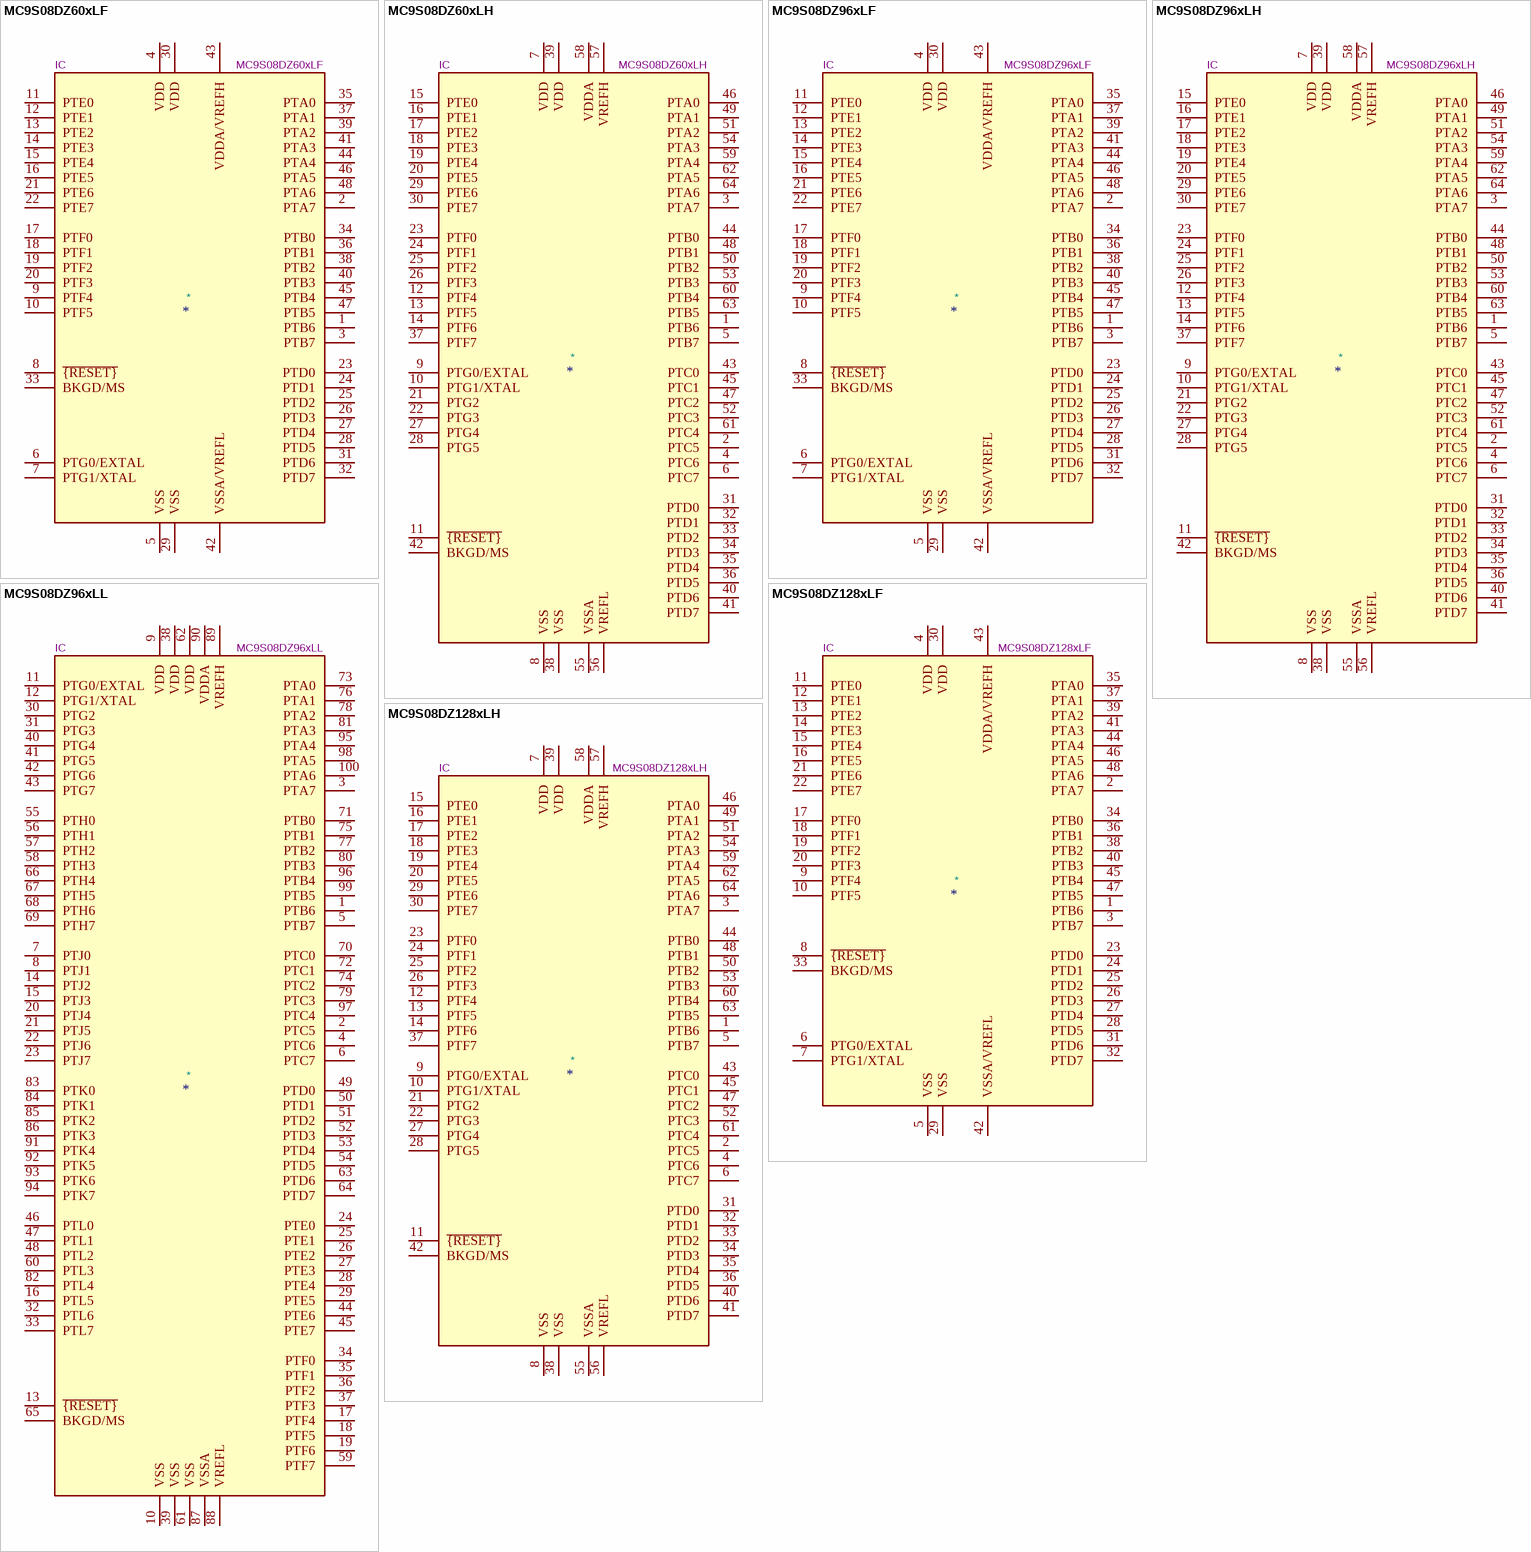
[diagram p10: symbols MC9S08DZ60xLF to MC9S08DZ128xLH]

## MC9S08DZ60xLF
designator *  value MC9S08DZ60xLF  Reference: IC
8-bit Cost-Effective Microcontroller, S08 core, 60kB Flash, 4kB RAM, 2kB EEPROM, LQFP-48; ki_keywords: NXP S08 Microcontroller; ki_fp_filters: LQFP*7x7mm*P0.5mm*; Footprint: Package_QFP:LQFP-48_7x7mm_P0.5mm; Datasheet: https://www.nxp.com/docs/en/data-sheet/MC9S08DZ60.pdf; Description_: 8-bit Cost-Effective Microcontroller, S08 core, 60kB Flash, 4kB RAM, 2kB EEPROM, LQFP-48
pins: 1 PTB6, 2 PTA7, 3 PTB7, 4 VDD, 5 VSS, 6 PTG0/EXTAL, 7 PTG1/XTAL, 8 ~{{RESET}}, 9 PTF4, 10 PTF5, 11 PTE0, 12 PTE1, 13 PTE2, 14 PTE3, 15 PTE4, 16 PTE5, 17 PTF0, 18 PTF1, 19 PTF2, 20 PTF3, 21 PTE6, 22 PTE7, 23 PTD0, 24 PTD1, 25 PTD2, 26 PTD3, 27 PTD4, 28 PTD5, 29 VSS, 30 VDD, 31 PTD6, 32 PTD7, 33 BKGD/MS, 34 PTB0, 35 PTA0, 36 PTB1, 37 PTA1, 38 PTB2, 39 PTA2, 40 PTB3, 41 PTA3, 42 VSSA/VREFL, 43 VDDA/VREFH, 44 PTA4, 45 PTB4, 46 PTA5, 47 PTB5, 48 PTA6

## MC9S08DZ60xLH
designator *  value MC9S08DZ60xLH  Reference: IC
8-bit Cost-Effective Microcontroller, S08 core, 60kB Flash, 4kB RAM, 2kB EEPROM, LQFP-64; ki_keywords: NXP S08 Microcontroller; ki_fp_filters: LQFP*10x10mm*P0.5mm*; Footprint: Package_QFP:LQFP-64_10x10mm_P0.5mm; Datasheet: https://www.nxp.com/docs/en/data-sheet/MC9S08DZ60.pdf; Description_: 8-bit Cost-Effective Microcontroller, S08 core, 60kB Flash, 4kB RAM, 2kB EEPROM, LQFP-64
pins: 1 PTB6, 2 PTC5, 3 PTA7, 4 PTC6, 5 PTB7, 6 PTC7, 7 VDD, 8 VSS, 9 PTG0/EXTAL, 10 PTG1/XTAL, 11 ~{{RESET}}, 12 PTF4, 13 PTF5, 14 PTF6, 15 PTE0, 16 PTE1, 17 PTE2, 18 PTE3, 19 PTE4, 20 PTE5, 21 PTG2, 22 PTG3, 23 PTF0, 24 PTF1, 25 PTF2, 26 PTF3, 27 PTG4, 28 PTG5, 29 PTE6, 30 PTE7, 31 PTD0, 32 PTD1, 33 PTD2, 34 PTD3, 35 PTD4, 36 PTD5, 37 PTF7, 38 VSS, 39 VDD, 40 PTD6, 41 PTD7, 42 BKGD/MS, 43 PTC0, 44 PTB0, 45 PTC1, 46 PTA0, 47 PTC2, 48 PTB1, 49 PTA1, 50 PTB2, 51 PTA2, 52 PTC3, 53 PTB3, 54 PTA3, 55 VSSA, 56 VREFL, 57 VREFH, 58 VDDA, 59 PTA4, 60 PTB4, 61 PTC4, 62 PTA5, 63 PTB5, 64 PTA6

## MC9S08DZ96xLF
designator *  value MC9S08DZ96xLF  Reference: IC
8-bit Cost-Effective Microcontroller, S08 core, 96kB Flash, 6kB RAM, 2kB EEPROM, LQFP-48; ki_keywords: NXP S08 Microcontroller; ki_fp_filters: LQFP*7x7mm*P0.5mm*; Footprint: Package_QFP:LQFP-48_7x7mm_P0.5mm; Datasheet: https://www.nxp.com/docs/en/data-sheet/MC9S08DZ128.pdf; Description_: 8-bit Cost-Effective Microcontroller, S08 core, 96kB Flash, 6kB RAM, 2kB EEPROM, LQFP-48
pins: 1 PTB6, 2 PTA7, 3 PTB7, 4 VDD, 5 VSS, 6 PTG0/EXTAL, 7 PTG1/XTAL, 8 ~{{RESET}}, 9 PTF4, 10 PTF5, 11 PTE0, 12 PTE1, 13 PTE2, 14 PTE3, 15 PTE4, 16 PTE5, 17 PTF0, 18 PTF1, 19 PTF2, 20 PTF3, 21 PTE6, 22 PTE7, 23 PTD0, 24 PTD1, 25 PTD2, 26 PTD3, 27 PTD4, 28 PTD5, 29 VSS, 30 VDD, 31 PTD6, 32 PTD7, 33 BKGD/MS, 34 PTB0, 35 PTA0, 36 PTB1, 37 PTA1, 38 PTB2, 39 PTA2, 40 PTB3, 41 PTA3, 42 VSSA/VREFL, 43 VDDA/VREFH, 44 PTA4, 45 PTB4, 46 PTA5, 47 PTB5, 48 PTA6

## MC9S08DZ96xLH
designator *  value MC9S08DZ96xLH  Reference: IC
8-bit Cost-Effective Microcontroller, S08 core, 96kB Flash, 6kB RAM, 2kB EEPROM, LQFP-64; ki_keywords: NXP S08 Microcontroller; ki_fp_filters: LQFP*10x10mm*P0.5mm*; Footprint: Package_QFP:LQFP-64_10x10mm_P0.5mm; Datasheet: https://www.nxp.com/docs/en/data-sheet/MC9S08DZ128.pdf; Description_: 8-bit Cost-Effective Microcontroller, S08 core, 96kB Flash, 6kB RAM, 2kB EEPROM, LQFP-64
pins: 1 PTB6, 2 PTC5, 3 PTA7, 4 PTC6, 5 PTB7, 6 PTC7, 7 VDD, 8 VSS, 9 PTG0/EXTAL, 10 PTG1/XTAL, 11 ~{{RESET}}, 12 PTF4, 13 PTF5, 14 PTF6, 15 PTE0, 16 PTE1, 17 PTE2, 18 PTE3, 19 PTE4, 20 PTE5, 21 PTG2, 22 PTG3, 23 PTF0, 24 PTF1, 25 PTF2, 26 PTF3, 27 PTG4, 28 PTG5, 29 PTE6, 30 PTE7, 31 PTD0, 32 PTD1, 33 PTD2, 34 PTD3, 35 PTD4, 36 PTD5, 37 PTF7, 38 VSS, 39 VDD, 40 PTD6, 41 PTD7, 42 BKGD/MS, 43 PTC0, 44 PTB0, 45 PTC1, 46 PTA0, 47 PTC2, 48 PTB1, 49 PTA1, 50 PTB2, 51 PTA2, 52 PTC3, 53 PTB3, 54 PTA3, 55 VSSA, 56 VREFL, 57 VREFH, 58 VDDA, 59 PTA4, 60 PTB4, 61 PTC4, 62 PTA5, 63 PTB5, 64 PTA6

## MC9S08DZ96xLL
designator *  value MC9S08DZ96xLL  Reference: IC
8-bit Cost-Effective Microcontroller, S08 core, 96kB Flash, 6kB RAM, 2kB EEPROM, LQFP-100; ki_keywords: NXP S08 Microcontroller; ki_fp_filters: LQFP*14x14mm*P0.5mm*; Footprint: Package_QFP:LQFP-100_14x14mm_P0.5mm; Datasheet: https://www.nxp.com/docs/en/data-sheet/MC9S08DZ128.pdf; Description_: 8-bit Cost-Effective Microcontroller, S08 core, 96kB Flash, 6kB RAM, 2kB EEPROM, LQFP-100
pins: 1 PTB6, 2 PTC5, 3 PTA7, 4 PTC6, 5 PTB7, 6 PTC7, 7 PTJ0, 8 PTJ1, 9 VDD, 10 VSS, 11 PTG0/EXTAL, 12 PTG1/XTAL, 13 ~{{RESET}}, 14 PTJ2, 15 PTJ3, 16 PTL5, 17 PTF4, 18 PTF5, 19 PTF6, 20 PTJ4, 21 PTJ5, 22 PTJ6, 23 PTJ7, 24 PTE0, 25 PTE1, 26 PTE2, 27 PTE3, 28 PTE4, 29 PTE5, 30 PTG2, 31 PTG3, 32 PTL6, 33 PTL7, 34 PTF0, 35 PTF1, 36 PTF2, 37 PTF3, 38 VDD, 39 VSS, 40 PTG4, 41 PTG5, 42 PTG6, 43 PTG7, 44 PTE6, 45 PTE7, 46 PTL0, 47 PTL1, 48 PTL2, 49 PTD0, 50 PTD1, 51 PTD2, 52 PTD3, 53 PTD4, 54 PTD5, 55 PTH0, 56 PTH1, 57 PTH2, 58 PTH3, 59 PTF7, 60 PTL3, 61 VSS, 62 VDD, 63 PTD6, 64 PTD7, 65 BKGD/MS, 66 PTH4, 67 PTH5, 68 PTH6, 69 PTH7, 70 PTC0, 71 PTB0, 72 PTC1, 73 PTA0, 74 PTC2, 75 PTB1, 76 PTA1, 77 PTB2, 78 PTA2, 79 PTC3, 80 PTB3, 81 PTA3, 82 PTL4, 83 PTK0, 84 PTK1, 85 PTK2, 86 PTK3, 87 VSSA, 88 VREFL, 89 VREFH, 90 VDDA, 91 PTK4, 92 PTK5, 93 PTK6, 94 PTK7, 95 PTA4, 96 PTB4, 97 PTC4, 98 PTA5, 99 PTB5, 100 PTA6

## MC9S08DZ128xLF
designator *  value MC9S08DZ128xLF  Reference: IC
8-bit Cost-Effective Microcontroller, S08 core, 128kB Flash, 8kB RAM, 2kB EEPROM, LQFP-48; ki_keywords: NXP S08 Microcontroller; ki_fp_filters: LQFP*7x7mm*P0.5mm*; Footprint: Package_QFP:LQFP-48_7x7mm_P0.5mm; Datasheet: https://www.nxp.com/docs/en/data-sheet/MC9S08DZ128.pdf; Description_: 8-bit Cost-Effective Microcontroller, S08 core, 128kB Flash, 8kB RAM, 2kB EEPROM, LQFP-48
pins: 1 PTB6, 2 PTA7, 3 PTB7, 4 VDD, 5 VSS, 6 PTG0/EXTAL, 7 PTG1/XTAL, 8 ~{{RESET}}, 9 PTF4, 10 PTF5, 11 PTE0, 12 PTE1, 13 PTE2, 14 PTE3, 15 PTE4, 16 PTE5, 17 PTF0, 18 PTF1, 19 PTF2, 20 PTF3, 21 PTE6, 22 PTE7, 23 PTD0, 24 PTD1, 25 PTD2, 26 PTD3, 27 PTD4, 28 PTD5, 29 VSS, 30 VDD, 31 PTD6, 32 PTD7, 33 BKGD/MS, 34 PTB0, 35 PTA0, 36 PTB1, 37 PTA1, 38 PTB2, 39 PTA2, 40 PTB3, 41 PTA3, 42 VSSA/VREFL, 43 VDDA/VREFH, 44 PTA4, 45 PTB4, 46 PTA5, 47 PTB5, 48 PTA6

## MC9S08DZ128xLH
designator *  value MC9S08DZ128xLH  Reference: IC
8-bit Cost-Effective Microcontroller, S08 core, 128kB Flash, 8kB RAM, 2kB EEPROM, LQFP-64; ki_keywords: NXP S08 Microcontroller; ki_fp_filters: LQFP*10x10mm*P0.5mm*; Footprint: Package_QFP:LQFP-64_10x10mm_P0.5mm; Datasheet: https://www.nxp.com/docs/en/data-sheet/MC9S08DZ128.pdf; Description_: 8-bit Cost-Effective Microcontroller, S08 core, 128kB Flash, 8kB RAM, 2kB EEPROM, LQFP-64
pins: 1 PTB6, 2 PTC5, 3 PTA7, 4 PTC6, 5 PTB7, 6 PTC7, 7 VDD, 8 VSS, 9 PTG0/EXTAL, 10 PTG1/XTAL, 11 ~{{RESET}}, 12 PTF4, 13 PTF5, 14 PTF6, 15 PTE0, 16 PTE1, 17 PTE2, 18 PTE3, 19 PTE4, 20 PTE5, 21 PTG2, 22 PTG3, 23 PTF0, 24 PTF1, 25 PTF2, 26 PTF3, 27 PTG4, 28 PTG5, 29 PTE6, 30 PTE7, 31 PTD0, 32 PTD1, 33 PTD2, 34 PTD3, 35 PTD4, 36 PTD5, 37 PTF7, 38 VSS, 39 VDD, 40 PTD6, 41 PTD7, 42 BKGD/MS, 43 PTC0, 44 PTB0, 45 PTC1, 46 PTA0, 47 PTC2, 48 PTB1, 49 PTA1, 50 PTB2, 51 PTA2, 52 PTC3, 53 PTB3, 54 PTA3, 55 VSSA, 56 VREFL, 57 VREFH, 58 VDDA, 59 PTA4, 60 PTB4, 61 PTC4, 62 PTA5, 63 PTB5, 64 PTA6

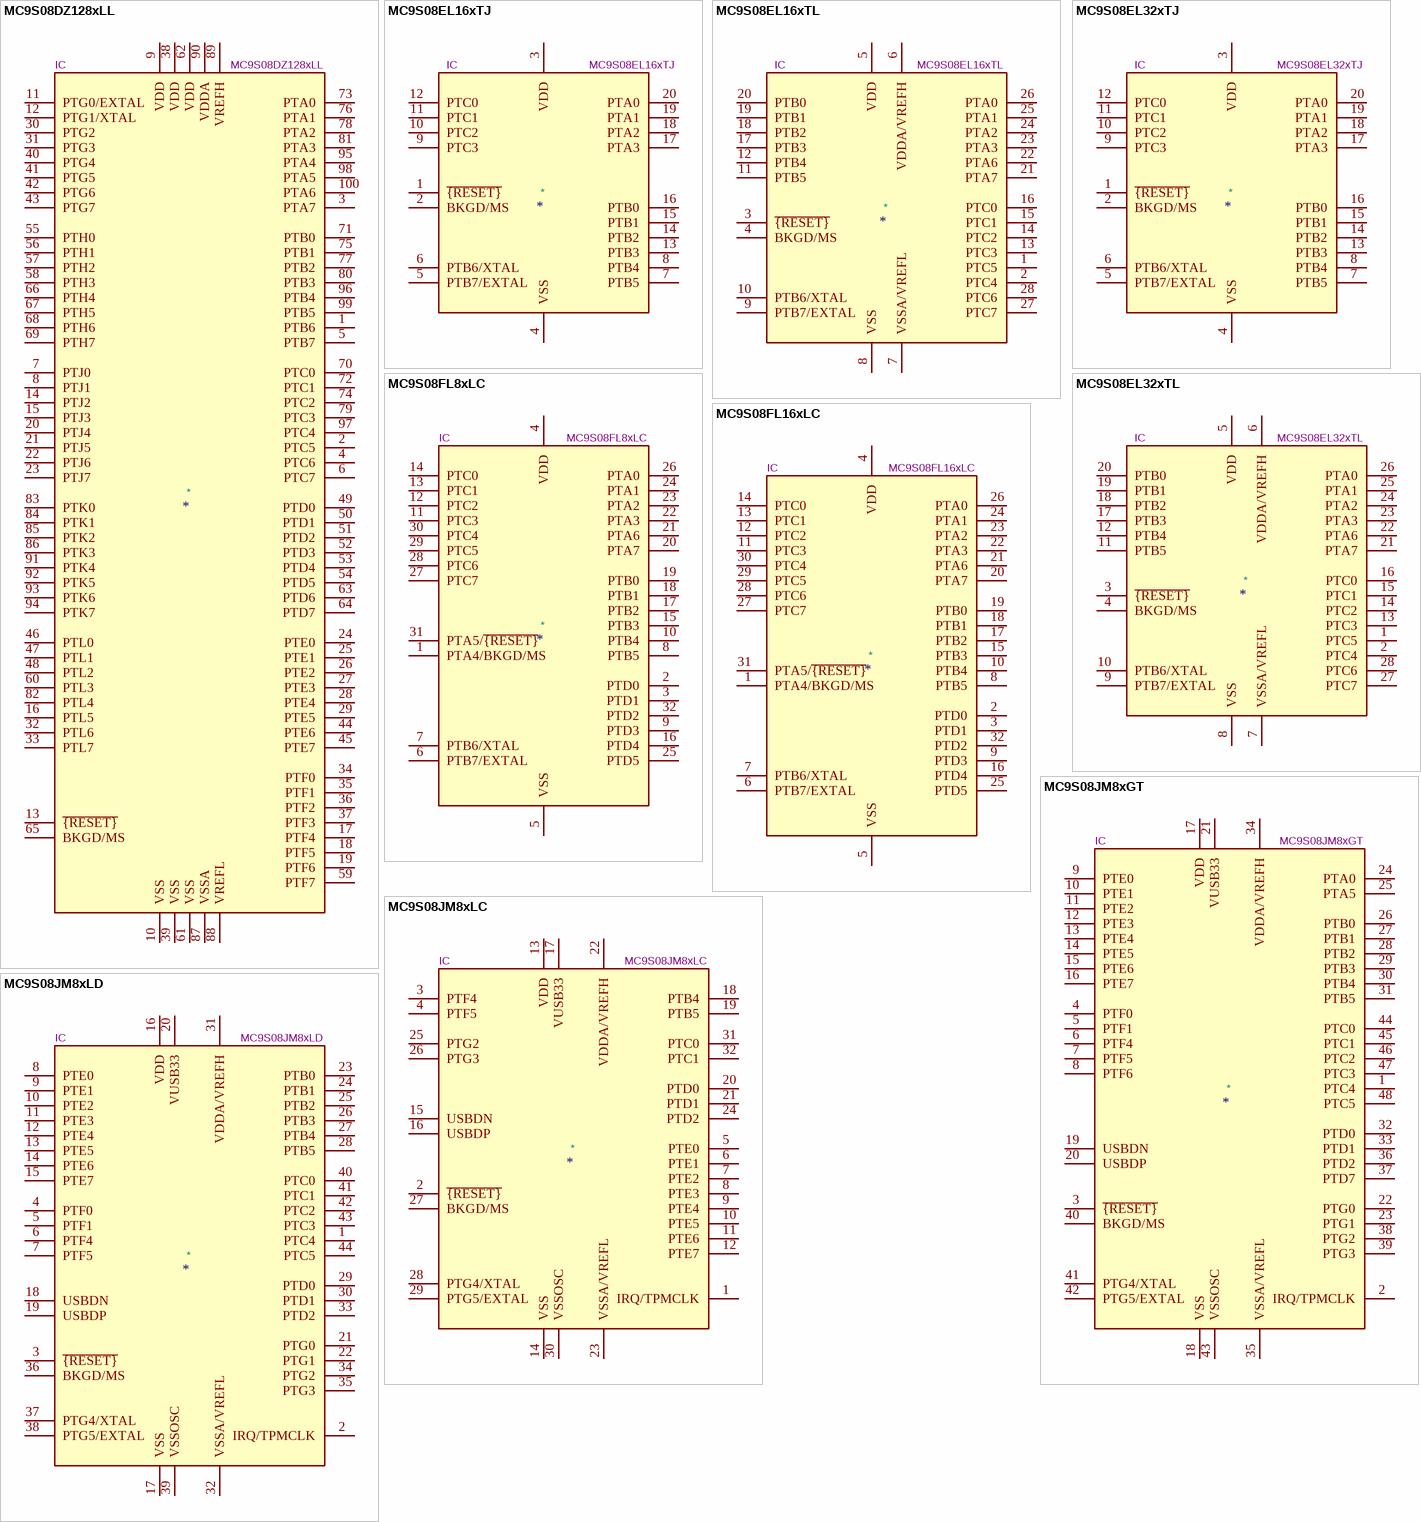
[diagram p11: symbols MC9S08DZ128xLL to MC9S08JM8xLD]

## MC9S08DZ128xLL
designator *  value MC9S08DZ128xLL  Reference: IC
8-bit Cost-Effective Microcontroller, S08 core, 128kB Flash, 8kB RAM, 2kB EEPROM, LQFP-100; ki_keywords: NXP S08 Microcontroller; ki_fp_filters: LQFP*14x14mm*P0.5mm*; Footprint: Package_QFP:LQFP-100_14x14mm_P0.5mm; Datasheet: https://www.nxp.com/docs/en/data-sheet/MC9S08DZ128.pdf; Description_: 8-bit Cost-Effective Microcontroller, S08 core, 128kB Flash, 8kB RAM, 2kB EEPROM, LQFP-100
pins: 1 PTB6, 2 PTC5, 3 PTA7, 4 PTC6, 5 PTB7, 6 PTC7, 7 PTJ0, 8 PTJ1, 9 VDD, 10 VSS, 11 PTG0/EXTAL, 12 PTG1/XTAL, 13 ~{{RESET}}, 14 PTJ2, 15 PTJ3, 16 PTL5, 17 PTF4, 18 PTF5, 19 PTF6, 20 PTJ4, 21 PTJ5, 22 PTJ6, 23 PTJ7, 24 PTE0, 25 PTE1, 26 PTE2, 27 PTE3, 28 PTE4, 29 PTE5, 30 PTG2, 31 PTG3, 32 PTL6, 33 PTL7, 34 PTF0, 35 PTF1, 36 PTF2, 37 PTF3, 38 VDD, 39 VSS, 40 PTG4, 41 PTG5, 42 PTG6, 43 PTG7, 44 PTE6, 45 PTE7, 46 PTL0, 47 PTL1, 48 PTL2, 49 PTD0, 50 PTD1, 51 PTD2, 52 PTD3, 53 PTD4, 54 PTD5, 55 PTH0, 56 PTH1, 57 PTH2, 58 PTH3, 59 PTF7, 60 PTL3, 61 VSS, 62 VDD, 63 PTD6, 64 PTD7, 65 BKGD/MS, 66 PTH4, 67 PTH5, 68 PTH6, 69 PTH7, 70 PTC0, 71 PTB0, 72 PTC1, 73 PTA0, 74 PTC2, 75 PTB1, 76 PTA1, 77 PTB2, 78 PTA2, 79 PTC3, 80 PTB3, 81 PTA3, 82 PTL4, 83 PTK0, 84 PTK1, 85 PTK2, 86 PTK3, 87 VSSA, 88 VREFL, 89 VREFH, 90 VDDA, 91 PTK4, 92 PTK5, 93 PTK6, 94 PTK7, 95 PTA4, 96 PTB4, 97 PTC4, 98 PTA5, 99 PTB5, 100 PTA6

## MC9S08EL16xTJ
designator *  value MC9S08EL16xTJ  Reference: IC
8-bit EEPROM with LIN Microcontroller, S08 core, 16kB Flash, 1kB RAM, 512B EEPROM, TSSOP-20; ki_keywords: NXP S08 Microcontroller; ki_fp_filters: TSSOP*4.4x6.5mm*P0.65mm*; Footprint: Package_SO:TSSOP-20_4.4x6.5mm_P0.65mm; Datasheet: https://www.nxp.com/docs/en/data-sheet/MC9S08EL32.pdf; Description_: 8-bit EEPROM with LIN Microcontroller, S08 core, 16kB Flash, 1kB RAM, 512B EEPROM, TSSOP-20
pins: 1 ~{{RESET}}, 2 BKGD/MS, 3 VDD, 4 VSS, 5 PTB7/EXTAL, 6 PTB6/XTAL, 7 PTB5, 8 PTB4, 9 PTC3, 10 PTC2, 11 PTC1, 12 PTC0, 13 PTB3, 14 PTB2, 15 PTB1, 16 PTB0, 17 PTA3, 18 PTA2, 19 PTA1, 20 PTA0

## MC9S08EL16xTL
designator *  value MC9S08EL16xTL  Reference: IC
8-bit EEPROM with LIN Microcontroller, S08 core, 16kB Flash, 1kB RAM, 512B EEPROM, TSSOP-28; ki_keywords: NXP S08 Microcontroller; ki_fp_filters: TSSOP*4.4x9.7mm*P0.65mm*; Footprint: Package_SO:TSSOP-28_4.4x9.7mm_P0.65mm; Datasheet: https://www.nxp.com/docs/en/data-sheet/MC9S08EL32.pdf; Description_: 8-bit EEPROM with LIN Microcontroller, S08 core, 16kB Flash, 1kB RAM, 512B EEPROM, TSSOP-28
pins: 1 PTC5, 2 PTC4, 3 ~{{RESET}}, 4 BKGD/MS, 5 VDD, 6 VDDA/VREFH, 7 VSSA/VREFL, 8 VSS, 9 PTB7/EXTAL, 10 PTB6/XTAL, 11 PTB5, 12 PTB4, 13 PTC3, 14 PTC2, 15 PTC1, 16 PTC0, 17 PTB3, 18 PTB2, 19 PTB1, 20 PTB0, 21 PTA7, 22 PTA6, 23 PTA3, 24 PTA2, 25 PTA1, 26 PTA0, 27 PTC7, 28 PTC6

## MC9S08EL32xTJ
designator *  value MC9S08EL32xTJ  Reference: IC
8-bit EEPROM with LIN Microcontroller, S08 core, 32kB Flash, 1kB RAM, 512B EEPROM, TSSOP-20; ki_keywords: NXP S08 Microcontroller; ki_fp_filters: TSSOP*4.4x6.5mm*P0.65mm*; Footprint: Package_SO:TSSOP-20_4.4x6.5mm_P0.65mm; Datasheet: https://www.nxp.com/docs/en/data-sheet/MC9S08EL32.pdf; Description_: 8-bit EEPROM with LIN Microcontroller, S08 core, 32kB Flash, 1kB RAM, 512B EEPROM, TSSOP-20
pins: 1 ~{{RESET}}, 2 BKGD/MS, 3 VDD, 4 VSS, 5 PTB7/EXTAL, 6 PTB6/XTAL, 7 PTB5, 8 PTB4, 9 PTC3, 10 PTC2, 11 PTC1, 12 PTC0, 13 PTB3, 14 PTB2, 15 PTB1, 16 PTB0, 17 PTA3, 18 PTA2, 19 PTA1, 20 PTA0

## MC9S08EL32xTL
designator *  value MC9S08EL32xTL  Reference: IC
8-bit EEPROM with LIN Microcontroller, S08 core, 32kB Flash, 1kB RAM, 512B EEPROM, TSSOP-28; ki_keywords: NXP S08 Microcontroller; ki_fp_filters: TSSOP*4.4x9.7mm*P0.65mm*; Footprint: Package_SO:TSSOP-28_4.4x9.7mm_P0.65mm; Datasheet: https://www.nxp.com/docs/en/data-sheet/MC9S08EL32.pdf; Description_: 8-bit EEPROM with LIN Microcontroller, S08 core, 32kB Flash, 1kB RAM, 512B EEPROM, TSSOP-28
pins: 1 PTC5, 2 PTC4, 3 ~{{RESET}}, 4 BKGD/MS, 5 VDD, 6 VDDA/VREFH, 7 VSSA/VREFL, 8 VSS, 9 PTB7/EXTAL, 10 PTB6/XTAL, 11 PTB5, 12 PTB4, 13 PTC3, 14 PTC2, 15 PTC1, 16 PTC0, 17 PTB3, 18 PTB2, 19 PTB1, 20 PTB0, 21 PTA7, 22 PTA6, 23 PTA3, 24 PTA2, 25 PTA1, 26 PTA0, 27 PTC7, 28 PTC6

## MC9S08FL8xLC
designator *  value MC9S08FL8xLC  Reference: IC
8-bit Cost-Effective Microcontroller, S08 core, 8kB Flash, 768B RAM, LQFP-32; ki_keywords: NXP S08 Microcontroller; ki_fp_filters: LQFP*7x7mm*P0.8mm*; Footprint: Package_QFP:LQFP-32_7x7mm_P0.8mm; Datasheet: https://www.nxp.com/docs/en/reference-manual/MC9S08FL16RM.pdf; Description_: 8-bit Cost-Effective Microcontroller, S08 core, 8kB Flash, 768B RAM, LQFP-32
pins: 1 PTA4/BKGD/MS, 2 PTD0, 3 PTD1, 4 VDD, 5 VSS, 6 PTB7/EXTAL, 7 PTB6/XTAL, 8 PTB5, 9 PTD3, 10 PTB4, 11 PTC3, 12 PTC2, 13 PTC1, 14 PTC0, 15 PTB3, 16 PTD4, 17 PTB2, 18 PTB1, 19 PTB0, 20 PTA7, 21 PTA6, 22 PTA3, 23 PTA2, 24 PTA1, 25 PTD5, 26 PTA0, 27 PTC7, 28 PTC6, 29 PTC5, 30 PTC4, 31 PTA5/~{{RESET}}, 32 PTD2

## MC9S08FL16xLC
designator *  value MC9S08FL16xLC  Reference: IC
8-bit Cost-Effective Microcontroller, S08 core, 16kB Flash, 1kB RAM, LQFP-32; ki_keywords: NXP S08 Microcontroller; ki_fp_filters: LQFP*7x7mm*P0.8mm*; Footprint: Package_QFP:LQFP-32_7x7mm_P0.8mm; Datasheet: https://www.nxp.com/docs/en/reference-manual/MC9S08FL16RM.pdf; Description_: 8-bit Cost-Effective Microcontroller, S08 core, 16kB Flash, 1kB RAM, LQFP-32
pins: 1 PTA4/BKGD/MS, 2 PTD0, 3 PTD1, 4 VDD, 5 VSS, 6 PTB7/EXTAL, 7 PTB6/XTAL, 8 PTB5, 9 PTD3, 10 PTB4, 11 PTC3, 12 PTC2, 13 PTC1, 14 PTC0, 15 PTB3, 16 PTD4, 17 PTB2, 18 PTB1, 19 PTB0, 20 PTA7, 21 PTA6, 22 PTA3, 23 PTA2, 24 PTA1, 25 PTD5, 26 PTA0, 27 PTC7, 28 PTC6, 29 PTC5, 30 PTC4, 31 PTA5/~{{RESET}}, 32 PTD2

## MC9S08JM8xGT
designator *  value MC9S08JM8xGT  Reference: IC
8-bit USB Cost-Effective Microcontroller, S08 core, 8kB Flash, 1kB RAM, QFN-48; ki_keywords: NXP S08 Microcontroller; ki_fp_filters: QFN*7x7mm*P0.5mm*; Footprint: Package_DFN_QFN:QFN-48-1EP_7x7mm_P0.5mm_EP5.15x5.15mm; Datasheet: https://www.nxp.com/docs/en/data-sheet/MC9S08JM16.pdf; Description_: 8-bit USB Cost-Effective Microcontroller, S08 core, 8kB Flash, 1kB RAM, QFN-48
pins: 1 PTC4, 2 IRQ/TPMCLK, 3 ~{{RESET}}, 4 PTF0, 5 PTF1, 6 PTF4, 7 PTF5, 8 PTF6, 9 PTE0, 10 PTE1, 11 PTE2, 12 PTE3, 13 PTE4, 14 PTE5, 15 PTE6, 16 PTE7, 17 VDD, 18 VSS, 19 USBDN, 20 USBDP, 21 VUSB33, 22 PTG0, 23 PTG1, 24 PTA0, 25 PTA5, 26 PTB0, 27 PTB1, 28 PTB2, 29 PTB3, 30 PTB4, 31 PTB5, 32 PTD0, 33 PTD1, 34 VDDA/VREFH, 35 VSSA/VREFL, 36 PTD2, 37 PTD7, 38 PTG2, 39 PTG3, 40 BKGD/MS, 41 PTG4/XTAL, 42 PTG5/EXTAL, 43 VSSOSC, 44 PTC0, 45 PTC1, 46 PTC2, 47 PTC3, 48 PTC5

## MC9S08JM8xLC
designator *  value MC9S08JM8xLC  Reference: IC
8-bit USB Cost-Effective Microcontroller, S08 core, 8kB Flash, 1kB RAM, LQFP-32; ki_keywords: NXP S08 Microcontroller; ki_fp_filters: LQFP*7x7mm*P0.8mm*; Footprint: Package_QFP:LQFP-32_7x7mm_P0.8mm; Datasheet: https://www.nxp.com/docs/en/data-sheet/MC9S08JM16.pdf; Description_: 8-bit USB Cost-Effective Microcontroller, S08 core, 8kB Flash, 1kB RAM, LQFP-32
pins: 1 IRQ/TPMCLK, 2 ~{{RESET}}, 3 PTF4, 4 PTF5, 5 PTE0, 6 PTE1, 7 PTE2, 8 PTE3, 9 PTE4, 10 PTE5, 11 PTE6, 12 PTE7, 13 VDD, 14 VSS, 15 USBDN, 16 USBDP, 17 VUSB33, 18 PTB4, 19 PTB5, 20 PTD0, 21 PTD1, 22 VDDA/VREFH, 23 VSSA/VREFL, 24 PTD2, 25 PTG2, 26 PTG3, 27 BKGD/MS, 28 PTG4/XTAL, 29 PTG5/EXTAL, 30 VSSOSC, 31 PTC0, 32 PTC1

## MC9S08JM8xLD
designator *  value MC9S08JM8xLD  Reference: IC
8-bit USB Cost-Effective Microcontroller, S08 core, 8kB Flash, 1kB RAM, LQFP-44; ki_keywords: NXP S08 Microcontroller; ki_fp_filters: LQFP*10x10mm*P0.8mm*; Footprint: Package_QFP:LQFP-44_10x10mm_P0.8mm; Datasheet: https://www.nxp.com/docs/en/data-sheet/MC9S08JM16.pdf; Description_: 8-bit USB Cost-Effective Microcontroller, S08 core, 8kB Flash, 1kB RAM, LQFP-44
pins: 1 PTC4, 2 IRQ/TPMCLK, 3 ~{{RESET}}, 4 PTF0, 5 PTF1, 6 PTF4, 7 PTF5, 8 PTE0, 9 PTE1, 10 PTE2, 11 PTE3, 12 PTE4, 13 PTE5, 14 PTE6, 15 PTE7, 16 VDD, 17 VSS, 18 USBDN, 19 USBDP, 20 VUSB33, 21 PTG0, 22 PTG1, 23 PTB0, 24 PTB1, 25 PTB2, 26 PTB3, 27 PTB4, 28 PTB5, 29 PTD0, 30 PTD1, 31 VDDA/VREFH, 32 VSSA/VREFL, 33 PTD2, 34 PTG2, 35 PTG3, 36 BKGD/MS, 37 PTG4/XTAL, 38 PTG5/EXTAL, 39 VSSOSC, 40 PTC0, 41 PTC1, 42 PTC2, 43 PTC3, 44 PTC5

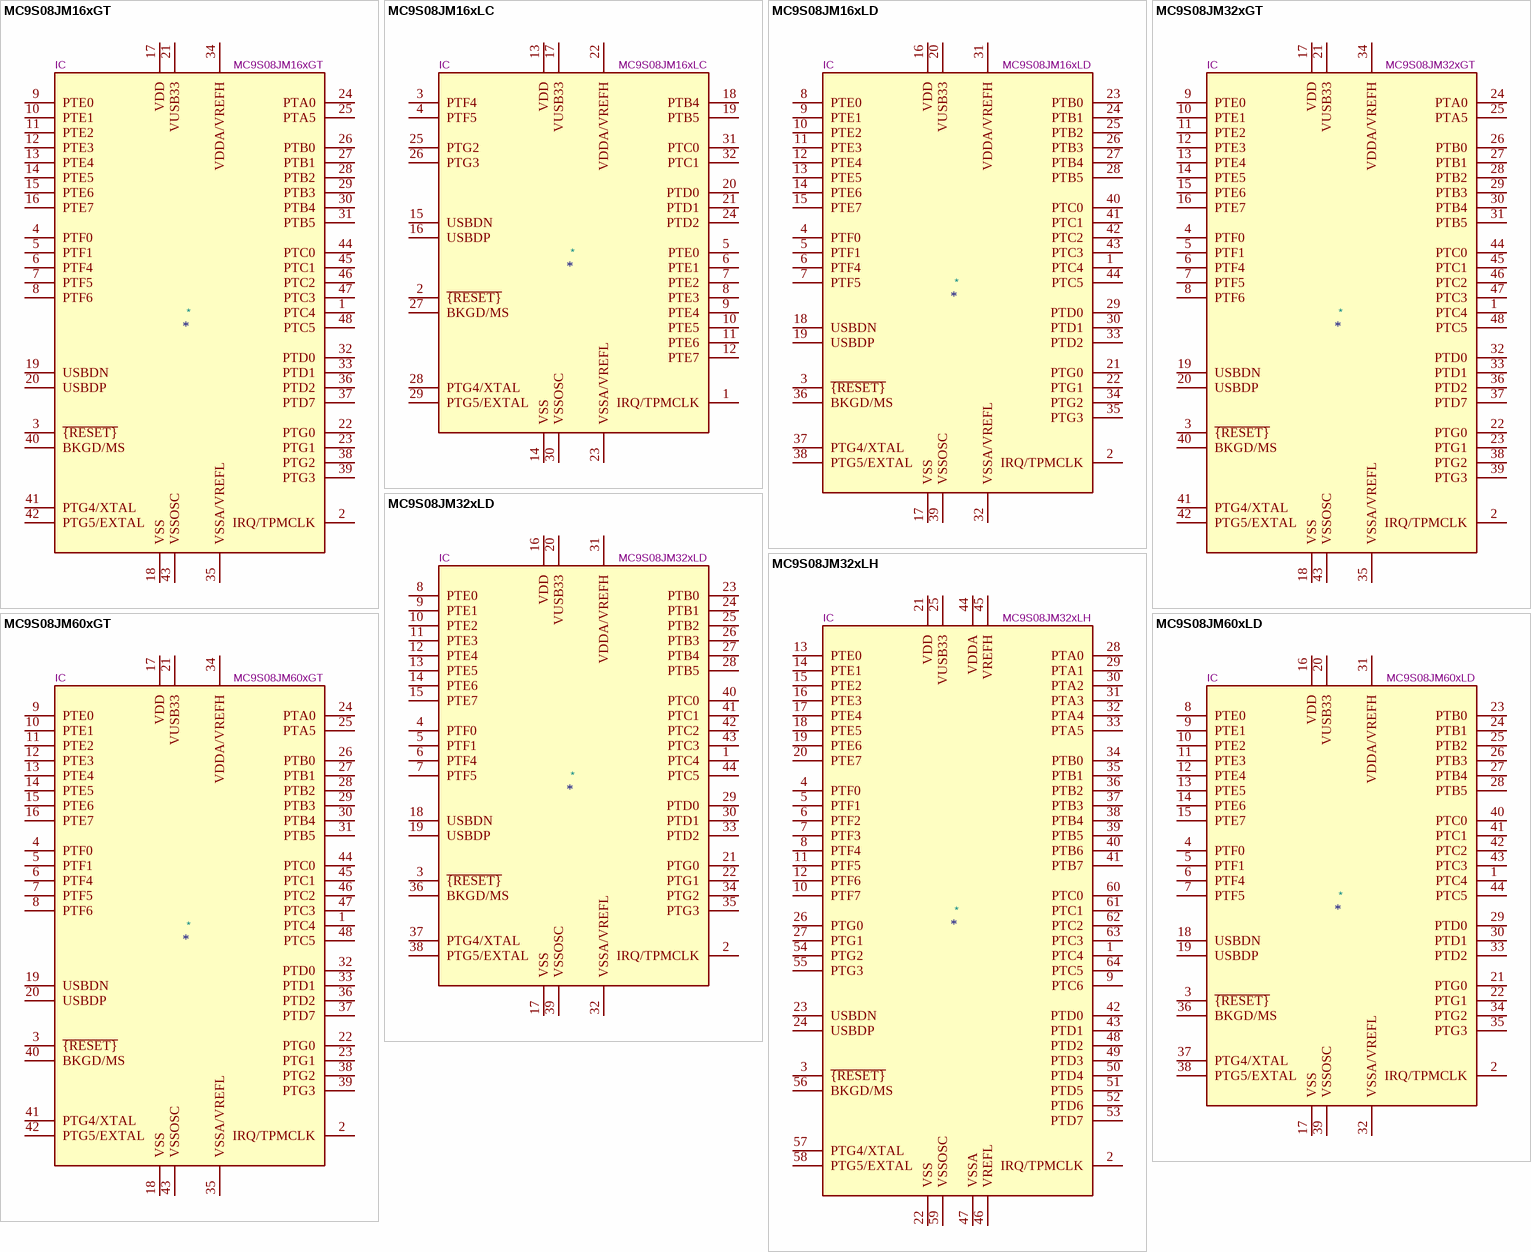
[diagram p12: symbols MC9S08JM16xGT to MC9S08JM60xLD]

## MC9S08JM16xGT
designator *  value MC9S08JM16xGT  Reference: IC
8-bit USB Cost-Effective Microcontroller, S08 core, 16kB Flash, 1kB RAM, QFN-48; ki_keywords: NXP S08 Microcontroller; ki_fp_filters: QFN*7x7mm*P0.5mm*; Footprint: Package_DFN_QFN:QFN-48-1EP_7x7mm_P0.5mm_EP5.15x5.15mm; Datasheet: https://www.nxp.com/docs/en/data-sheet/MC9S08JM16.pdf; Description_: 8-bit USB Cost-Effective Microcontroller, S08 core, 16kB Flash, 1kB RAM, QFN-48
pins: 1 PTC4, 2 IRQ/TPMCLK, 3 ~{{RESET}}, 4 PTF0, 5 PTF1, 6 PTF4, 7 PTF5, 8 PTF6, 9 PTE0, 10 PTE1, 11 PTE2, 12 PTE3, 13 PTE4, 14 PTE5, 15 PTE6, 16 PTE7, 17 VDD, 18 VSS, 19 USBDN, 20 USBDP, 21 VUSB33, 22 PTG0, 23 PTG1, 24 PTA0, 25 PTA5, 26 PTB0, 27 PTB1, 28 PTB2, 29 PTB3, 30 PTB4, 31 PTB5, 32 PTD0, 33 PTD1, 34 VDDA/VREFH, 35 VSSA/VREFL, 36 PTD2, 37 PTD7, 38 PTG2, 39 PTG3, 40 BKGD/MS, 41 PTG4/XTAL, 42 PTG5/EXTAL, 43 VSSOSC, 44 PTC0, 45 PTC1, 46 PTC2, 47 PTC3, 48 PTC5

## MC9S08JM16xLC
designator *  value MC9S08JM16xLC  Reference: IC
8-bit USB Cost-Effective Microcontroller, S08 core, 16kB Flash, 1kB RAM, LQFP-32; ki_keywords: NXP S08 Microcontroller; ki_fp_filters: LQFP*7x7mm*P0.8mm*; Footprint: Package_QFP:LQFP-32_7x7mm_P0.8mm; Datasheet: https://www.nxp.com/docs/en/data-sheet/MC9S08JM16.pdf; Description_: 8-bit USB Cost-Effective Microcontroller, S08 core, 16kB Flash, 1kB RAM, LQFP-32
pins: 1 IRQ/TPMCLK, 2 ~{{RESET}}, 3 PTF4, 4 PTF5, 5 PTE0, 6 PTE1, 7 PTE2, 8 PTE3, 9 PTE4, 10 PTE5, 11 PTE6, 12 PTE7, 13 VDD, 14 VSS, 15 USBDN, 16 USBDP, 17 VUSB33, 18 PTB4, 19 PTB5, 20 PTD0, 21 PTD1, 22 VDDA/VREFH, 23 VSSA/VREFL, 24 PTD2, 25 PTG2, 26 PTG3, 27 BKGD/MS, 28 PTG4/XTAL, 29 PTG5/EXTAL, 30 VSSOSC, 31 PTC0, 32 PTC1

## MC9S08JM16xLD
designator *  value MC9S08JM16xLD  Reference: IC
8-bit USB Cost-Effective Microcontroller, S08 core, 16kB Flash, 1kB RAM, LQFP-44; ki_keywords: NXP S08 Microcontroller; ki_fp_filters: LQFP*10x10mm*P0.8mm*; Footprint: Package_QFP:LQFP-44_10x10mm_P0.8mm; Datasheet: https://www.nxp.com/docs/en/data-sheet/MC9S08JM16.pdf; Description_: 8-bit USB Cost-Effective Microcontroller, S08 core, 16kB Flash, 1kB RAM, LQFP-44
pins: 1 PTC4, 2 IRQ/TPMCLK, 3 ~{{RESET}}, 4 PTF0, 5 PTF1, 6 PTF4, 7 PTF5, 8 PTE0, 9 PTE1, 10 PTE2, 11 PTE3, 12 PTE4, 13 PTE5, 14 PTE6, 15 PTE7, 16 VDD, 17 VSS, 18 USBDN, 19 USBDP, 20 VUSB33, 21 PTG0, 22 PTG1, 23 PTB0, 24 PTB1, 25 PTB2, 26 PTB3, 27 PTB4, 28 PTB5, 29 PTD0, 30 PTD1, 31 VDDA/VREFH, 32 VSSA/VREFL, 33 PTD2, 34 PTG2, 35 PTG3, 36 BKGD/MS, 37 PTG4/XTAL, 38 PTG5/EXTAL, 39 VSSOSC, 40 PTC0, 41 PTC1, 42 PTC2, 43 PTC3, 44 PTC5

## MC9S08JM32xGT
designator *  value MC9S08JM32xGT  Reference: IC
8-bit USB Cost-Effective Microcontroller, S08 core, 32kB Flash, 2kB RAM, QFN-48; ki_keywords: NXP S08 Microcontroller; ki_fp_filters: QFN*7x7mm*P0.5mm*; Footprint: Package_DFN_QFN:QFN-48-1EP_7x7mm_P0.5mm_EP5.15x5.15mm; Datasheet: https://www.nxp.com/docs/en/data-sheet/MC9S08JM60.pdf; Description_: 8-bit USB Cost-Effective Microcontroller, S08 core, 32kB Flash, 2kB RAM, QFN-48
pins: 1 PTC4, 2 IRQ/TPMCLK, 3 ~{{RESET}}, 4 PTF0, 5 PTF1, 6 PTF4, 7 PTF5, 8 PTF6, 9 PTE0, 10 PTE1, 11 PTE2, 12 PTE3, 13 PTE4, 14 PTE5, 15 PTE6, 16 PTE7, 17 VDD, 18 VSS, 19 USBDN, 20 USBDP, 21 VUSB33, 22 PTG0, 23 PTG1, 24 PTA0, 25 PTA5, 26 PTB0, 27 PTB1, 28 PTB2, 29 PTB3, 30 PTB4, 31 PTB5, 32 PTD0, 33 PTD1, 34 VDDA/VREFH, 35 VSSA/VREFL, 36 PTD2, 37 PTD7, 38 PTG2, 39 PTG3, 40 BKGD/MS, 41 PTG4/XTAL, 42 PTG5/EXTAL, 43 VSSOSC, 44 PTC0, 45 PTC1, 46 PTC2, 47 PTC3, 48 PTC5

## MC9S08JM32xLD
designator *  value MC9S08JM32xLD  Reference: IC
8-bit USB Cost-Effective Microcontroller, S08 core, 32kB Flash, 2kB RAM, LQFP-44; ki_keywords: NXP S08 Microcontroller; ki_fp_filters: LQFP*10x10mm*P0.8mm*; Footprint: Package_QFP:LQFP-44_10x10mm_P0.8mm; Datasheet: https://www.nxp.com/docs/en/data-sheet/MC9S08JM60.pdf; Description_: 8-bit USB Cost-Effective Microcontroller, S08 core, 32kB Flash, 2kB RAM, LQFP-44
pins: 1 PTC4, 2 IRQ/TPMCLK, 3 ~{{RESET}}, 4 PTF0, 5 PTF1, 6 PTF4, 7 PTF5, 8 PTE0, 9 PTE1, 10 PTE2, 11 PTE3, 12 PTE4, 13 PTE5, 14 PTE6, 15 PTE7, 16 VDD, 17 VSS, 18 USBDN, 19 USBDP, 20 VUSB33, 21 PTG0, 22 PTG1, 23 PTB0, 24 PTB1, 25 PTB2, 26 PTB3, 27 PTB4, 28 PTB5, 29 PTD0, 30 PTD1, 31 VDDA/VREFH, 32 VSSA/VREFL, 33 PTD2, 34 PTG2, 35 PTG3, 36 BKGD/MS, 37 PTG4/XTAL, 38 PTG5/EXTAL, 39 VSSOSC, 40 PTC0, 41 PTC1, 42 PTC2, 43 PTC3, 44 PTC5

## MC9S08JM32xLH
designator *  value MC9S08JM32xLH  Reference: IC
8-bit USB Cost-Effective Microcontroller, S08 core, 32kB Flash, 2kB RAM, LQFP-64; ki_keywords: NXP S08 Microcontroller; ki_fp_filters: LQFP*10x10mm*P0.5mm*; Footprint: Package_QFP:LQFP-64_10x10mm_P0.5mm; Datasheet: https://www.nxp.com/docs/en/data-sheet/MC9S08JM60.pdf; Description_: 8-bit USB Cost-Effective Microcontroller, S08 core, 32kB Flash, 2kB RAM, LQFP-64
pins: 1 PTC4, 2 IRQ/TPMCLK, 3 ~{{RESET}}, 4 PTF0, 5 PTF1, 6 PTF2, 7 PTF3, 8 PTF4, 9 PTC6, 10 PTF7, 11 PTF5, 12 PTF6, 13 PTE0, 14 PTE1, 15 PTE2, 16 PTE3, 17 PTE4, 18 PTE5, 19 PTE6, 20 PTE7, 21 VDD, 22 VSS, 23 USBDN, 24 USBDP, 25 VUSB33, 26 PTG0, 27 PTG1, 28 PTA0, 29 PTA1, 30 PTA2, 31 PTA3, 32 PTA4, 33 PTA5, 34 PTB0, 35 PTB1, 36 PTB2, 37 PTB3, 38 PTB4, 39 PTB5, 40 PTB6, 41 PTB7, 42 PTD0, 43 PTD1, 44 VDDA, 45 VREFH, 46 VREFL, 47 VSSA, 48 PTD2, 49 PTD3, 50 PTD4, 51 PTD5, 52 PTD6, 53 PTD7, 54 PTG2, 55 PTG3, 56 BKGD/MS, 57 PTG4/XTAL, 58 PTG5/EXTAL, 59 VSSOSC, 60 PTC0, 61 PTC1, 62 PTC2, 63 PTC3, 64 PTC5

## MC9S08JM60xGT
designator *  value MC9S08JM60xGT  Reference: IC
8-bit USB Cost-Effective Microcontroller, S08 core, 60kB Flash, 4kB RAM, QFN-48; ki_keywords: NXP S08 Microcontroller; ki_fp_filters: QFN*7x7mm*P0.5mm*; Footprint: Package_DFN_QFN:QFN-48-1EP_7x7mm_P0.5mm_EP5.15x5.15mm; Datasheet: https://www.nxp.com/docs/en/data-sheet/MC9S08JM60.pdf; Description_: 8-bit USB Cost-Effective Microcontroller, S08 core, 60kB Flash, 4kB RAM, QFN-48
pins: 1 PTC4, 2 IRQ/TPMCLK, 3 ~{{RESET}}, 4 PTF0, 5 PTF1, 6 PTF4, 7 PTF5, 8 PTF6, 9 PTE0, 10 PTE1, 11 PTE2, 12 PTE3, 13 PTE4, 14 PTE5, 15 PTE6, 16 PTE7, 17 VDD, 18 VSS, 19 USBDN, 20 USBDP, 21 VUSB33, 22 PTG0, 23 PTG1, 24 PTA0, 25 PTA5, 26 PTB0, 27 PTB1, 28 PTB2, 29 PTB3, 30 PTB4, 31 PTB5, 32 PTD0, 33 PTD1, 34 VDDA/VREFH, 35 VSSA/VREFL, 36 PTD2, 37 PTD7, 38 PTG2, 39 PTG3, 40 BKGD/MS, 41 PTG4/XTAL, 42 PTG5/EXTAL, 43 VSSOSC, 44 PTC0, 45 PTC1, 46 PTC2, 47 PTC3, 48 PTC5

## MC9S08JM60xLD
designator *  value MC9S08JM60xLD  Reference: IC
8-bit USB Cost-Effective Microcontroller, S08 core, 60kB Flash, 4kB RAM, LQFP-44; ki_keywords: NXP S08 Microcontroller; ki_fp_filters: LQFP*10x10mm*P0.8mm*; Footprint: Package_QFP:LQFP-44_10x10mm_P0.8mm; Datasheet: https://www.nxp.com/docs/en/data-sheet/MC9S08JM60.pdf; Description_: 8-bit USB Cost-Effective Microcontroller, S08 core, 60kB Flash, 4kB RAM, LQFP-44
pins: 1 PTC4, 2 IRQ/TPMCLK, 3 ~{{RESET}}, 4 PTF0, 5 PTF1, 6 PTF4, 7 PTF5, 8 PTE0, 9 PTE1, 10 PTE2, 11 PTE3, 12 PTE4, 13 PTE5, 14 PTE6, 15 PTE7, 16 VDD, 17 VSS, 18 USBDN, 19 USBDP, 20 VUSB33, 21 PTG0, 22 PTG1, 23 PTB0, 24 PTB1, 25 PTB2, 26 PTB3, 27 PTB4, 28 PTB5, 29 PTD0, 30 PTD1, 31 VDDA/VREFH, 32 VSSA/VREFL, 33 PTD2, 34 PTG2, 35 PTG3, 36 BKGD/MS, 37 PTG4/XTAL, 38 PTG5/EXTAL, 39 VSSOSC, 40 PTC0, 41 PTC1, 42 PTC2, 43 PTC3, 44 PTC5

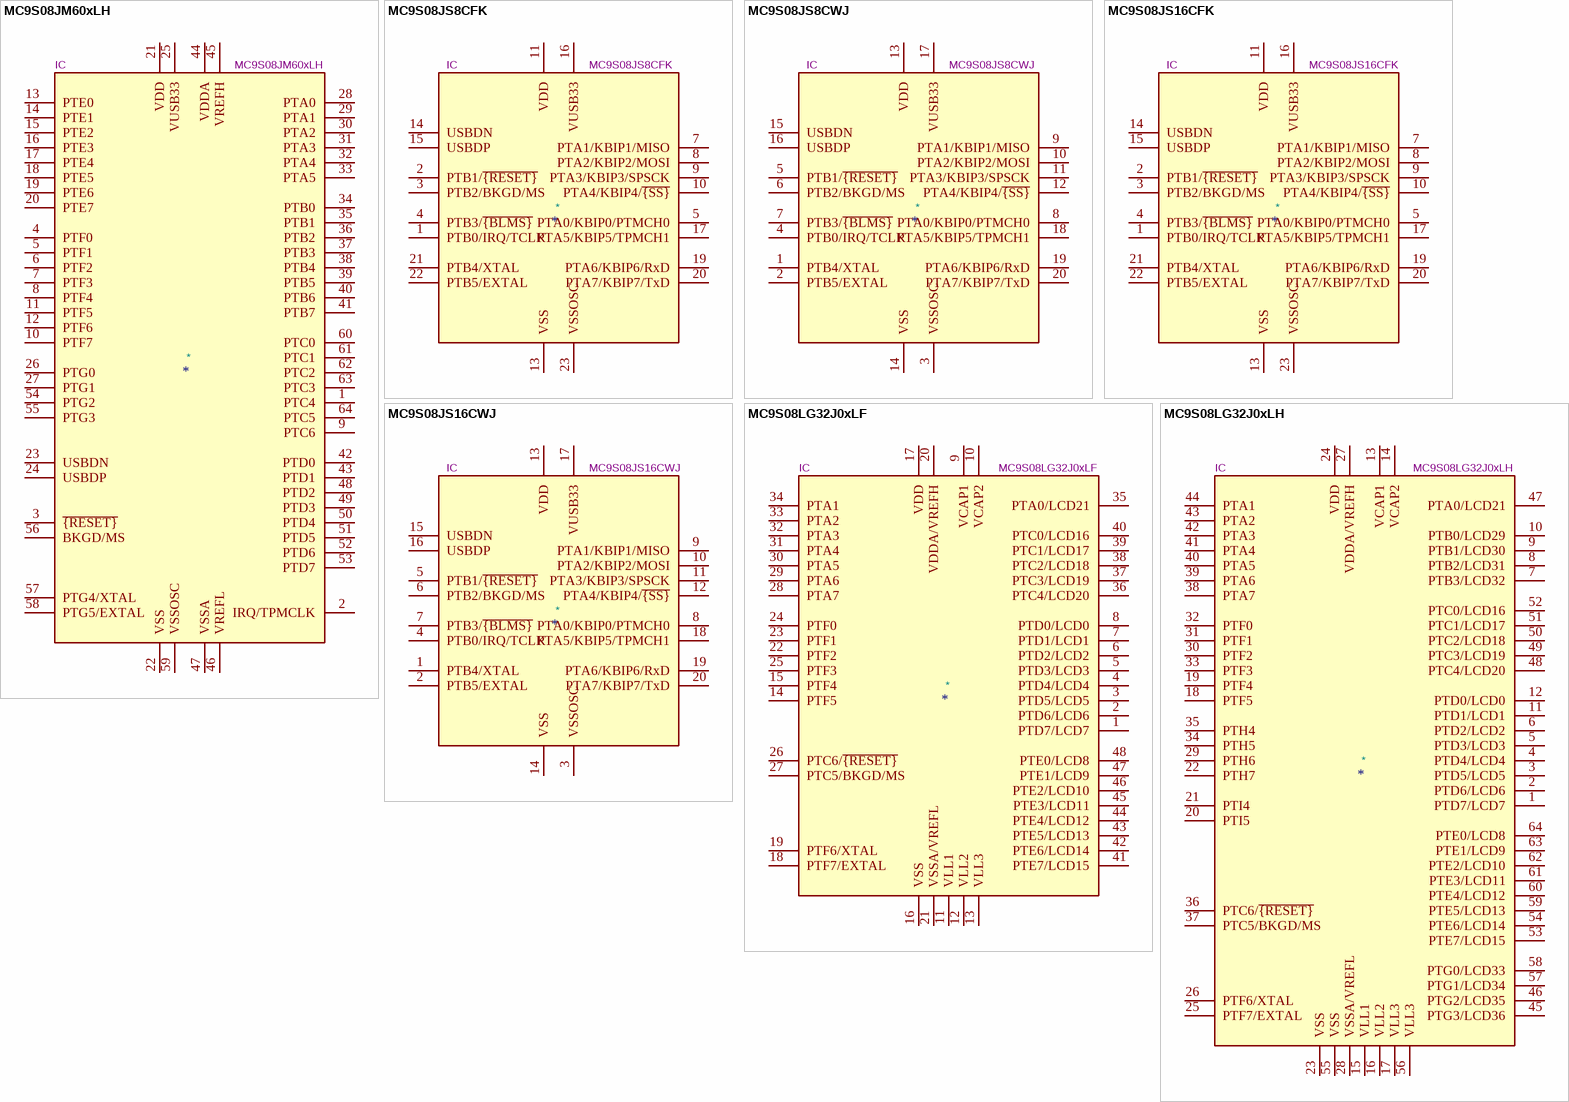
[diagram p13: symbols MC9S08JM60xLH to MC9S08LG32J0xLH]

## MC9S08JM60xLH
designator *  value MC9S08JM60xLH  Reference: IC
8-bit USB Cost-Effective Microcontroller, S08 core, 60kB Flash, 4kB RAM, LQFP-64; ki_keywords: NXP S08 Microcontroller; ki_fp_filters: LQFP*10x10mm*P0.5mm*; Footprint: Package_QFP:LQFP-64_10x10mm_P0.5mm; Datasheet: https://www.nxp.com/docs/en/data-sheet/MC9S08JM60.pdf; Description_: 8-bit USB Cost-Effective Microcontroller, S08 core, 60kB Flash, 4kB RAM, LQFP-64
pins: 1 PTC4, 2 IRQ/TPMCLK, 3 ~{{RESET}}, 4 PTF0, 5 PTF1, 6 PTF2, 7 PTF3, 8 PTF4, 9 PTC6, 10 PTF7, 11 PTF5, 12 PTF6, 13 PTE0, 14 PTE1, 15 PTE2, 16 PTE3, 17 PTE4, 18 PTE5, 19 PTE6, 20 PTE7, 21 VDD, 22 VSS, 23 USBDN, 24 USBDP, 25 VUSB33, 26 PTG0, 27 PTG1, 28 PTA0, 29 PTA1, 30 PTA2, 31 PTA3, 32 PTA4, 33 PTA5, 34 PTB0, 35 PTB1, 36 PTB2, 37 PTB3, 38 PTB4, 39 PTB5, 40 PTB6, 41 PTB7, 42 PTD0, 43 PTD1, 44 VDDA, 45 VREFH, 46 VREFL, 47 VSSA, 48 PTD2, 49 PTD3, 50 PTD4, 51 PTD5, 52 PTD6, 53 PTD7, 54 PTG2, 55 PTG3, 56 BKGD/MS, 57 PTG4/XTAL, 58 PTG5/EXTAL, 59 VSSOSC, 60 PTC0, 61 PTC1, 62 PTC2, 63 PTC3, 64 PTC5

## MC9S08JS8CFK
designator *  value MC9S08JS8CFK  Reference: IC
8-bit USB Microcontroller, S08 core, 8kB Flash, 512B RAM, QFN-24; ki_keywords: NXP S08 Microcontroller; ki_fp_filters: QFN*1EP*5x5mm*P0.65mm*; Footprint: Package_DFN_QFN:QFN-24-1EP_5x5mm_P0.65mm_EP3.6x3.6mm; Datasheet: https://www.nxp.com/docs/en/reference-manual/MC9S08JS16RM.pdf; Description_: 8-bit USB Microcontroller, S08 core, 8kB Flash, 512B RAM, QFN-24
pins: 1 PTB0/IRQ/TCLK, 2 PTB1/~{{RESET}}, 3 PTB2/BKGD/MS, 4 PTB3/~{{BLMS}}, 5 PTA0/KBIP0/PTMCH0, 7 PTA1/KBIP1/MISO, 8 PTA2/KBIP2/MOSI, 9 PTA3/KBIP3/SPSCK, 10 PTA4/KBIP4/~{{SS}}, 11 VDD, 13 VSS, 14 USBDN, 15 USBDP, 16 VUSB33, 17 PTA5/KBIP5/TPMCH1, 19 PTA6/KBIP6/RxD, 20 PTA7/KBIP7/TxD, 21 PTB4/XTAL, 22 PTB5/EXTAL, 23 VSSOSC

## MC9S08JS8CWJ
designator *  value MC9S08JS8CWJ  Reference: IC
8-bit USB Microcontroller, S08 core, 8kB Flash, 512B RAM, SOIC-20; ki_keywords: NXP S08 Microcontroller; ki_fp_filters: SOIC*7.5x12.8mm*P1.27mm*; Footprint: Package_SO:SOIC-20W_7.5x12.8mm_P1.27mm; Datasheet: https://www.nxp.com/docs/en/reference-manual/MC9S08JS16RM.pdf; Description_: 8-bit USB Microcontroller, S08 core, 8kB Flash, 512B RAM, SOIC-20
pins: 1 PTB4/XTAL, 2 PTB5/EXTAL, 3 VSSOSC, 4 PTB0/IRQ/TCLK, 5 PTB1/~{{RESET}}, 6 PTB2/BKGD/MS, 7 PTB3/~{{BLMS}}, 8 PTA0/KBIP0/PTMCH0, 9 PTA1/KBIP1/MISO, 10 PTA2/KBIP2/MOSI, 11 PTA3/KBIP3/SPSCK, 12 PTA4/KBIP4/~{{SS}}, 13 VDD, 14 VSS, 15 USBDN, 16 USBDP, 17 VUSB33, 18 PTA5/KBIP5/TPMCH1, 19 PTA6/KBIP6/RxD, 20 PTA7/KBIP7/TxD

## MC9S08JS16CFK
designator *  value MC9S08JS16CFK  Reference: IC
8-bit USB Microcontroller, S08 core, 16kB Flash, 512B RAM, QFN-24; ki_keywords: NXP S08 Microcontroller; ki_fp_filters: QFN*1EP*5x5mm*P0.65mm*; Footprint: Package_DFN_QFN:QFN-24-1EP_5x5mm_P0.65mm_EP3.6x3.6mm; Datasheet: https://www.nxp.com/docs/en/reference-manual/MC9S08JS16RM.pdf; Description_: 8-bit USB Microcontroller, S08 core, 16kB Flash, 512B RAM, QFN-24
pins: 1 PTB0/IRQ/TCLK, 2 PTB1/~{{RESET}}, 3 PTB2/BKGD/MS, 4 PTB3/~{{BLMS}}, 5 PTA0/KBIP0/PTMCH0, 7 PTA1/KBIP1/MISO, 8 PTA2/KBIP2/MOSI, 9 PTA3/KBIP3/SPSCK, 10 PTA4/KBIP4/~{{SS}}, 11 VDD, 13 VSS, 14 USBDN, 15 USBDP, 16 VUSB33, 17 PTA5/KBIP5/TPMCH1, 19 PTA6/KBIP6/RxD, 20 PTA7/KBIP7/TxD, 21 PTB4/XTAL, 22 PTB5/EXTAL, 23 VSSOSC

## MC9S08JS16CWJ
designator *  value MC9S08JS16CWJ  Reference: IC
8-bit USB Microcontroller, S08 core, 16kB Flash, 512B RAM, SOIC-20; ki_keywords: NXP S08 Microcontroller; ki_fp_filters: SOIC*7.5x12.8mm*P1.27mm*; Footprint: Package_SO:SOIC-20W_7.5x12.8mm_P1.27mm; Datasheet: https://www.nxp.com/docs/en/reference-manual/MC9S08JS16RM.pdf; Description_: 8-bit USB Microcontroller, S08 core, 16kB Flash, 512B RAM, SOIC-20
pins: 1 PTB4/XTAL, 2 PTB5/EXTAL, 3 VSSOSC, 4 PTB0/IRQ/TCLK, 5 PTB1/~{{RESET}}, 6 PTB2/BKGD/MS, 7 PTB3/~{{BLMS}}, 8 PTA0/KBIP0/PTMCH0, 9 PTA1/KBIP1/MISO, 10 PTA2/KBIP2/MOSI, 11 PTA3/KBIP3/SPSCK, 12 PTA4/KBIP4/~{{SS}}, 13 VDD, 14 VSS, 15 USBDN, 16 USBDP, 17 VUSB33, 18 PTA5/KBIP5/TPMCH1, 19 PTA6/KBIP6/RxD, 20 PTA7/KBIP7/TxD